# Altium integrated library TL3572-EVM-A1.1-000-202609041832.IntLib: 124 symbols (part 1 of 2)
Pins are listed as number, name and electrical type; pins without a type are passive.

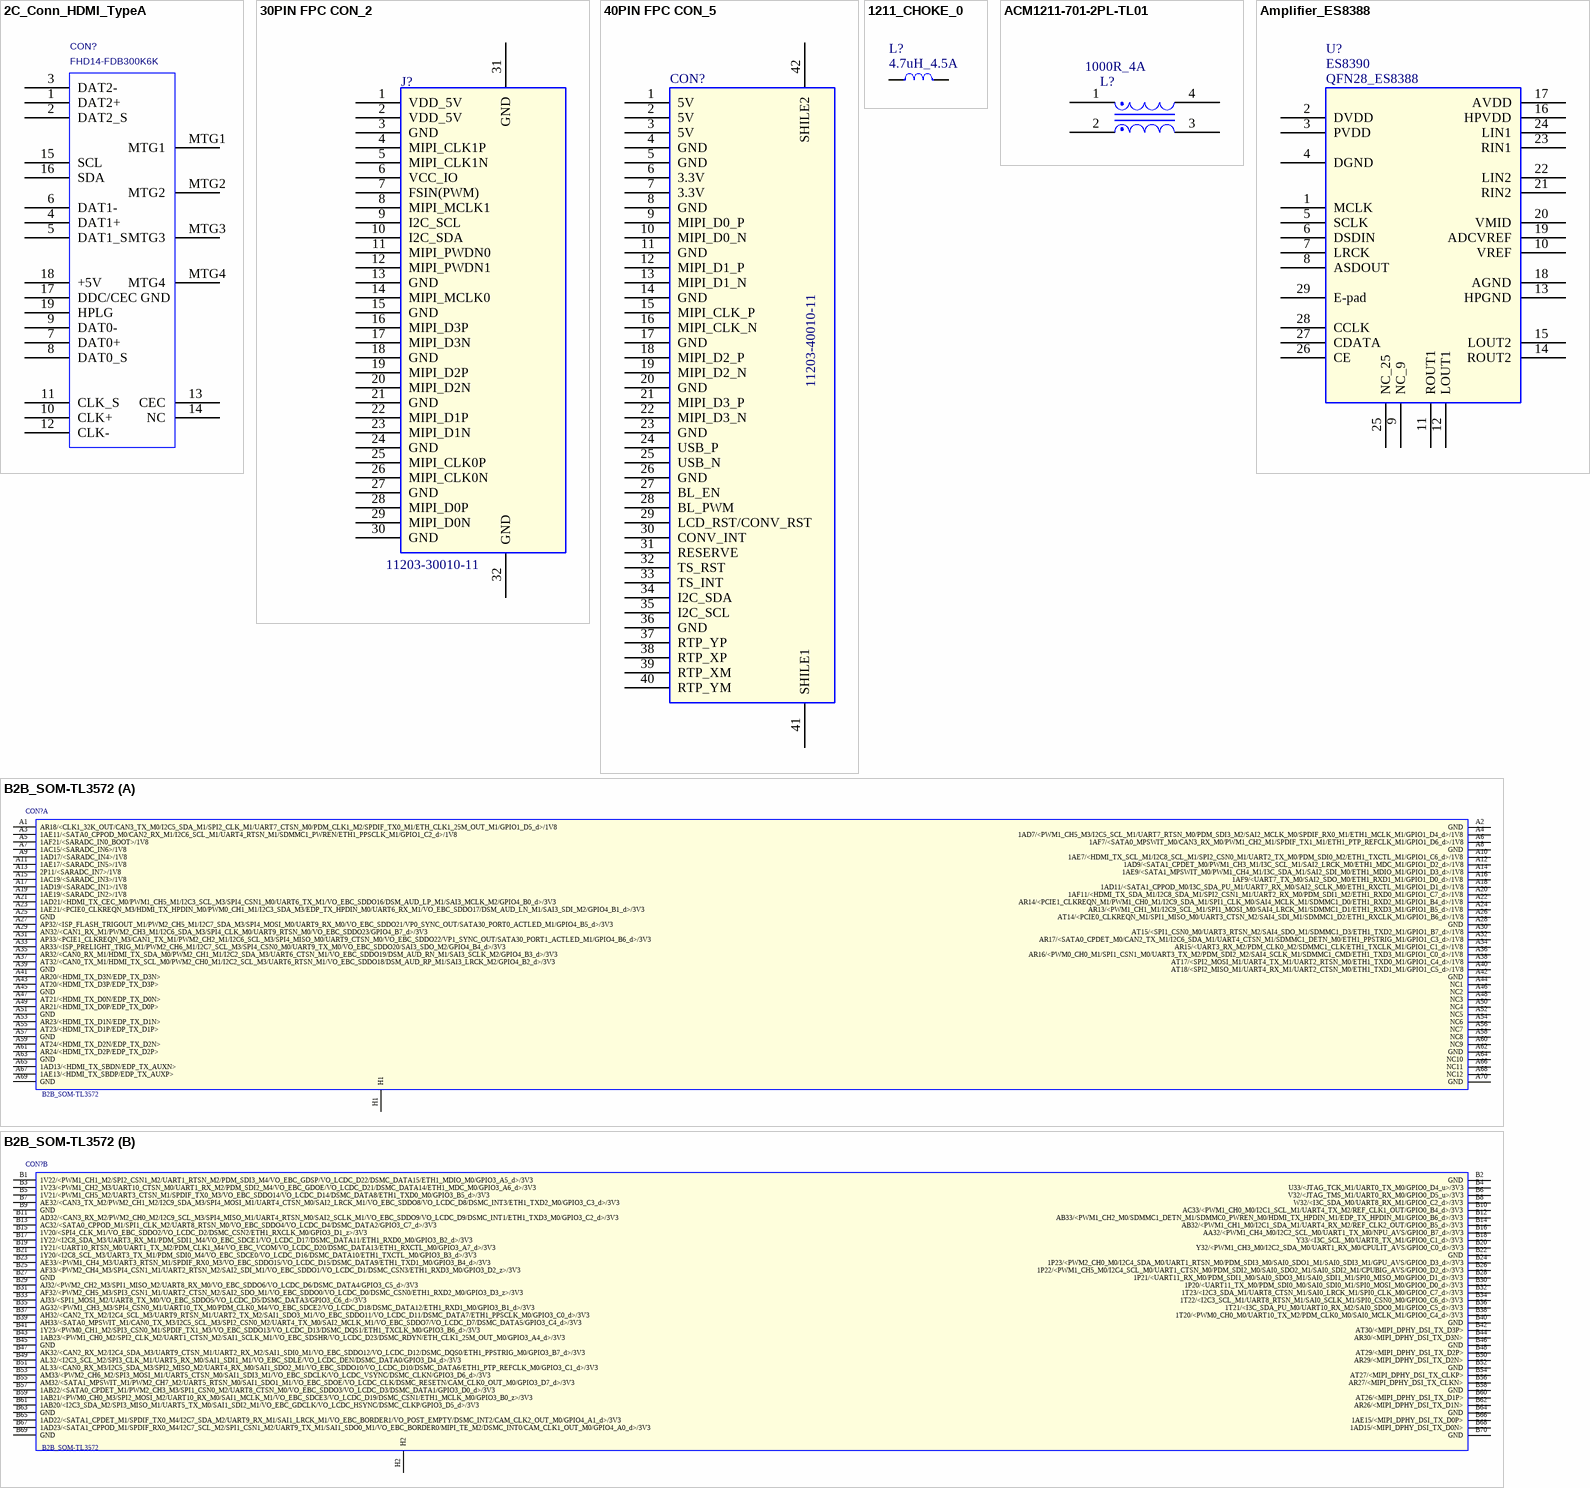
[diagram p0: symbols 2C_Conn_HDMI_TypeA to B2B_SOM-TL3572]

## 2C_Conn_HDMI_TypeA
designator CON?, comment FHD14-FDB300K6K
插件HDMI座,A型,19P,侧立; TIIntPartnumber: 2C0085; MfrNum: 10029449-001RLF; Mfr: FCI; PartName: Conn_HDMI_A; Manufacturer: 深圳特思嘉工业电子有限公司（TXGA）; Manufacturer Character: 中国大陆; PCB Footprint: SMD_Ratbd; Cost10K: 0.37; Cost100: 0.91; Vendor: Digikey; DescriptiveText: Connector HDMI Type A RA; Eco-Label: ROHS; ERP Number: 005.0001.0003.00449; As-Welded: /; Operation Temperature（℃）: -40~+85(Ta); Manufacturer PartNumber: FHD14-FDB300K6K; Temperature: -40~85℃; Part Status: 优选
footprint DIP_HDMI-A
pins: 1 DAT2+, 2 DAT2_S, 3 DAT2-, 4 DAT1+, 5 DAT1_S, 6 DAT1-, 7 DAT0+, 8 DAT0_S, 9 DAT0-, 10 CLK+, 11 CLK_S, 12 CLK-, 13 CEC, 14 NC, 15 SCL, 16 SDA, 17 DDC/CEC GND, 18 +5V, 19 HPLG, MTG1 (power), MTG2 (power), MTG3 (power), MTG4 (power)

## 30PIN FPC CON_2
designator J?, comment 11203-30010-11
FFC座,30P,0.5mm间距,翻盖下接式,H=2.0mm; Manufacturer Character: 中国大陆; Manufacturer: 深圳市联畅精密电子有限公司(LCP); PCB Footprint: CON_FFC_0D5_30P; Eco-Label: ROHS; ERP Number: 005.0001.0003.00381; Operation Temperature（℃）: -40~+85(Ta); As-Welded: /; ERP PCB Footprint: CON_FFC_30P_0D5_F_DOWN_SMD; Part Status: 优选; Manufacturer PartNumber: 11203-30010-11
footprint CON_FFC_0D5_30P
pins: 1 VDD_5V (power), 2 VDD_5V (power), 3 GND (power), 4 MIPI_CLK1P, 5 MIPI_CLK1N, 6 VCC_IO, 7 FSIN(PWM), 8 MIPI_MCLK1, 9 I2C_SCL, 10 I2C_SDA, 11 MIPI_PWDN0, 12 MIPI_PWDN1, 13 GND (power), 14 MIPI_MCLK0, 15 GND (power), 16 MIPI_D3P, 17 MIPI_D3N, 18 GND (power), 19 MIPI_D2P, 20 MIPI_D2N, 21 GND (power), 22 MIPI_D1P, 23 MIPI_D1N, 24 GND (power), 25 MIPI_CLK0P, 26 MIPI_CLK0N, 27 GND (power), 28 MIPI_D0P, 29 MIPI_D0N, 30 GND (power), 31 GND (power), 32 GND (power)

## 40PIN FPC CON_5
designator CON?, comment 11203-40010-11
FFC座,40P,0.5mm间距,翻盖下接式,H=2.0mm; Manufacturer Character: 中国大陆; Manufacturer: 深圳市联畅精密电子有限公司(LCP); As-Welded: /; Operation Temperature（℃）: -40~+85(Ta); ERP Number: 005.0001.0003.00380; Eco-Label: ROHS; PCB Footprint: CON_FFC_0D5_40P; Part Status: 优选; Manufacturer PartNumber: 11203-40010-11; Temperature: -55~85℃
footprint CON_FFC_0D5_40P
pins: 1 5V (power), 2 5V (power), 3 5V (power), 4 GND (power), 5 GND (power), 6 3.3V (power), 7 3.3V (power), 8 GND (power), 9 MIPI_D0_P, 10 MIPI_D0_N, 11 GND (power), 12 MIPI_D1_P, 13 MIPI_D1_N, 14 GND (power), 15 MIPI_CLK_P, 16 MIPI_CLK_N, 17 GND (power), 18 MIPI_D2_P, 19 MIPI_D2_N, 20 GND (power), 21 MIPI_D3_P, 22 MIPI_D3_N, 23 GND (power), 24 USB_P, 25 USB_N, 26 GND (power), 27 BL_EN, 28 BL_PWM, 29 LCD_RST/CONV_RST, 30 CONV_INT, 31 RESERVE, 32 TS_RST, 33 TS_INT, 34 I2C_SDA, 35 I2C_SCL, 36 GND (power), 37 RTP_YP, 38 RTP_XP, 39 RTP_XM, 40 RTP_YM, 41 SHILE1, 42 SHILE2

## 1211_CHOKE_0
designator L?, comment 4.7uH_4.5A
贴片功率电感,4.7uH,0.060Ω,Isat=5A,Irms=4.5A; Manufacturer Character: 中国大陆; Manufacturer: 深圳市长江微电科技有限公司（Cjiang）; Manufacturer PartNumber: FXL0530-4R7M; CLASS: DISCRETE; Operation Temperature（℃）: -55~+125(Ta); Current: 5A; As-Welded: /; ERP Number: 005.0001.0006.00167; Eco-Label: ROHS; PCB Footprint: SMD-L5452M-2P; Temperature: -40~125℃; Part Status: 测评
footprint SMD-L5452M-2P
pins: 1, 2

## ACM1211-701-2PL-TL01
designator L?, comment 1000R_4A
贴片共模电感,13mΩ,4A,50V,1000Ω@100MHz; Manufacturer Character: 中国大陆; Manufacturer: 深圳市宏业兴电子有限公司（HONGYEX）; Part Number: G11.00002; Manufacturer PartNumber: CMF9070F-102-2P-T; PCB Footprint: SMD-L9070M-4P; Eco-Label: ROHS; Operation Temperature（℃）: -40~+85(Ta); As-Welded: /; ERP Number: 005.0001.0006.00183; Price: 0; Part Type: 共模电感; Part Status: 优选
footprint SMD-L9070M-4P
pins: 1, 2, 3, 4

## Amplifier_ES8388
designator U?, comment ES8390  PCB Footprint: QFN28_ES8388
立体声音频编解码器; Manufacturer: 苏州顺芯半导体有限公司（Everest）; Manufacturer Character: 国外; RK PN: ES8388; Priority: A; Operation Temperature（℃）: -40~125(Ta); As-Welded: /; ERP Number: 005.0001.0004.01347; Eco-Label: ROHS; Part Status: 测评; Manufacturer PartNumber: ES8390; Part Type: Amplifier; Manufacturer PN: ES8388; Created by: JJJ
footprint QFN28_ES8388
pins: 1 MCLK, 2 DVDD, 3 PVDD, 4 DGND, 5 SCLK, 6 DSDIN, 7 LRCK, 8 ASDOUT, 9 NC_9, 10 VREF, 11 ROUT1, 12 LOUT1, 13 HPGND (power), 14 ROUT2, 15 LOUT2, 16 HPVDD, 17 AVDD, 18 AGND (power), 19 ADCVREF, 20 VMID, 21 RIN2, 22 LIN2, 23 RIN1, 24 LIN1, 25 NC_25, 26 CE, 27 CDATA, 28 CCLK, 29 E-pad

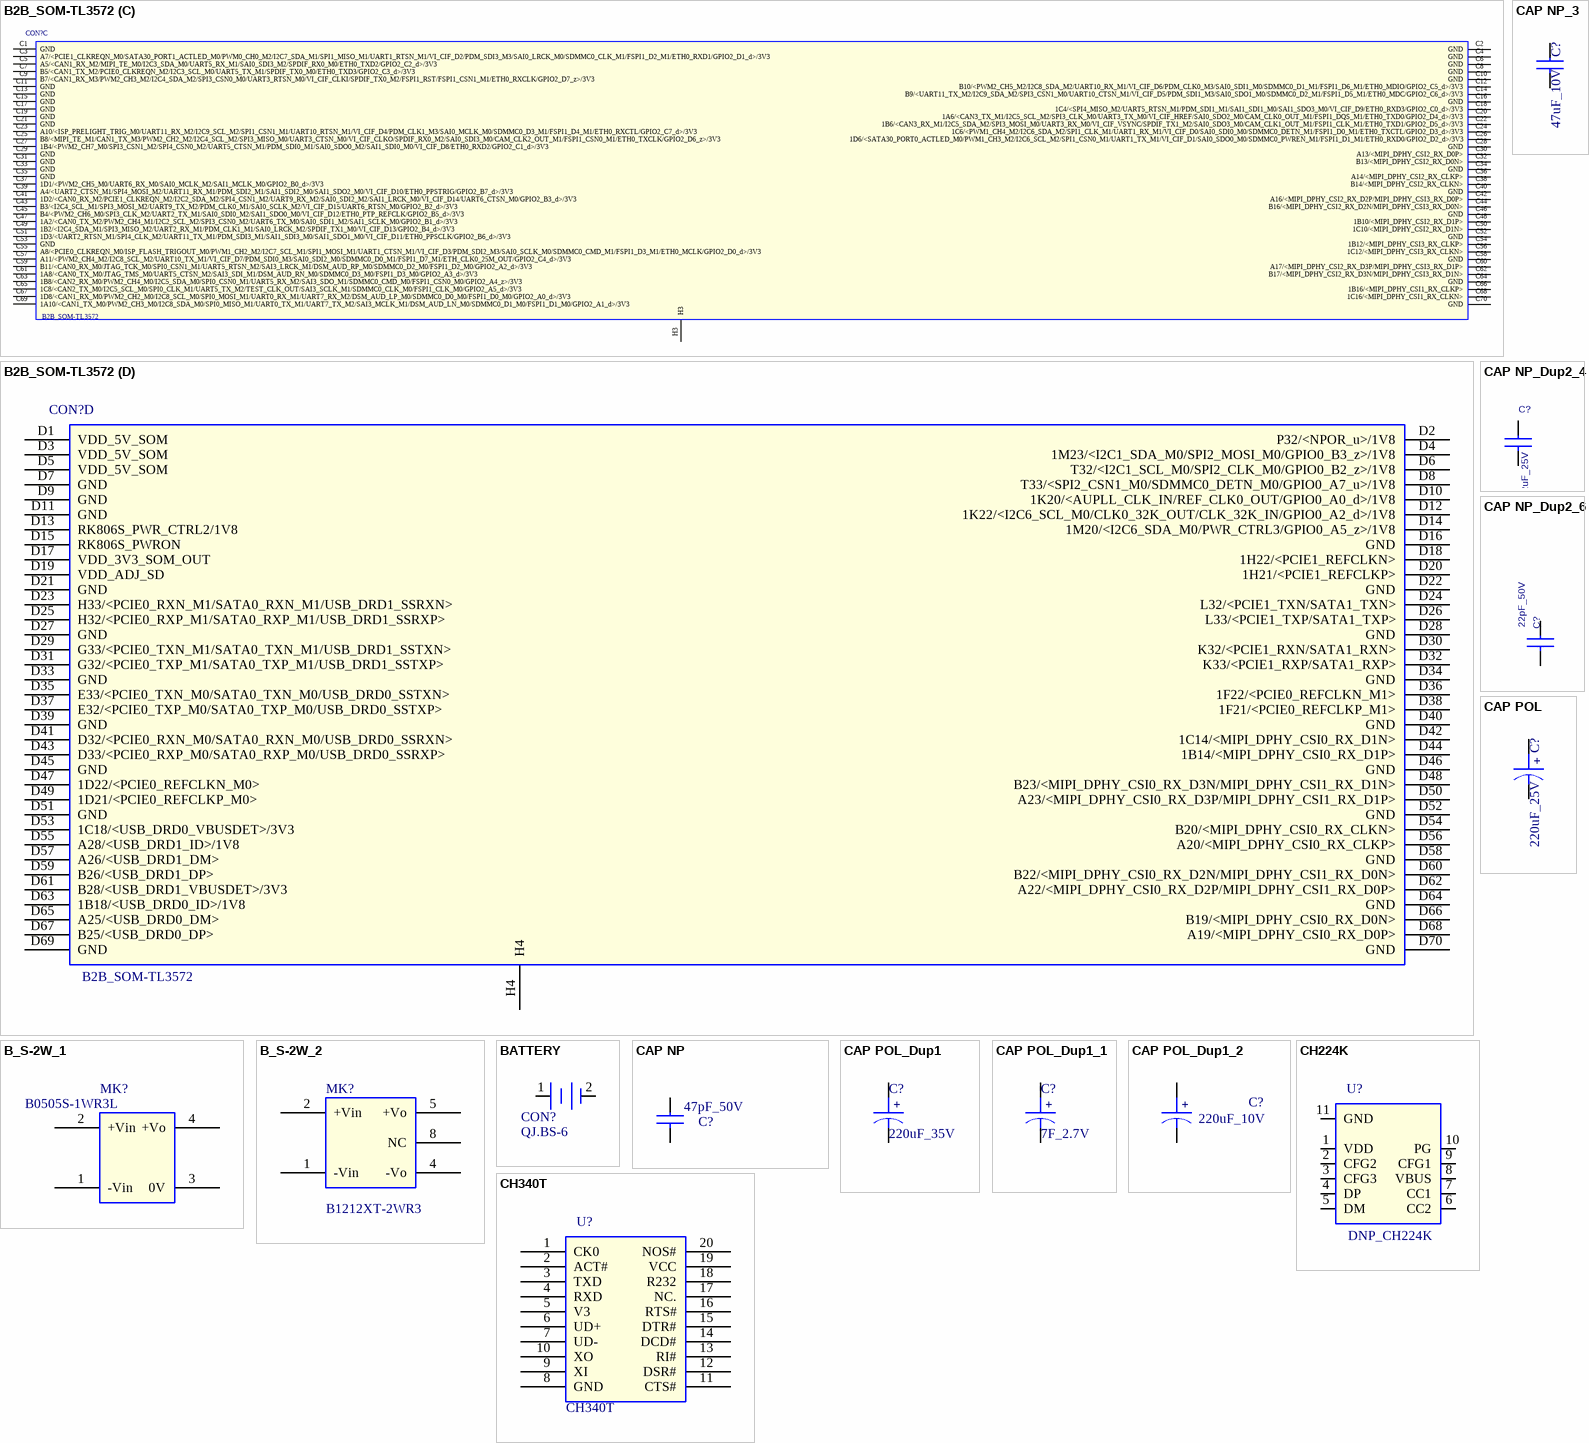
[diagram p1: symbols B2B_SOM-TL3572 to CH340T]

## B2B_SOM-TL3572
designator CON?
PCB Footprint: B2B_SOM-TL3572
footprint B2B_SOM-TL3572
part A pins: A1 AR18/<CLK1_32K_OUT/CAN3_TX_M0/I2C5_SDA_M1/SPI2_CLK_M1/UART7_CTSN_M0/PDM_CLK1_M2/SPDIF_TX0_M1/ETH_CLK1_25M_OUT_M1/GPIO1_D5_d>/1V8 (power), A2 GND (power), A3 1AE11/<SATA0_CPPOD_M0/CAN2_RX_M1/I2C6_SCL_M1/UART4_RTSN_M1/SDMMC1_PWREN/ETH1_PPSCLK_M1/GPIO1_C2_d>/1V8 (power), A4 1AD7/<PWM1_CH5_M3/I2C5_SCL_M1/UART7_RTSN_M0/PDM_SDI3_M2/SAI2_MCLK_M0/SPDIF_RX0_M1/ETH1_MCLK_M1/GPIO1_D4_d>/1V8, A5 1AF21/<SARADC_IN0_BOOT>/1V8 (power), A6 1AF7/<SATA0_MPSWIT_M0/CAN3_RX_M0/PWM1_CH2_M1/SPDIF_TX1_M1/ETH1_PTP_REFCLK_M1/GPIO1_D6_d>/1V8, A7 1AC15/<SARADC_IN6>/1V8 (power), A8 GND (power), A9 1AD17/<SARADC_IN4>/1V8 (power), A10 1AE7/<HDMI_TX_SCL_M1/I2C8_SCL_M1/SPI2_CSN0_M1/UART2_TX_M0/PDM_SDI0_M2/ETH1_TXCTL_M1/GPIO1_C6_d>/1V8, A11 1AE17/<SARADC_IN5>/1V8 (power), A12 1AD9/<SATA1_CPDET_M0/PWM1_CH3_M1/I3C_SCL_M1/SAI2_LRCK_M0/ETH1_MDC_M1/GPIO1_D2_d>/1V8, A13 2P11/<SARADC_IN7>/1V8, A14 1AE9/<SATA1_MPSWIT_M0/PWM1_CH4_M1/I3C_SDA_M1/SAI2_SDI_M0/ETH1_MDIO_M1/GPIO1_D3_d>/1V8 (power), A15 1AC19/<SARADC_IN3>/1V8, A16 1AF9/<UART7_TX_M0/SAI2_SDO_M0/ETH1_RXD1_M1/GPIO1_D0_d>/1V8, A17 1AD19/<SARADC_IN1>/1V8, A18 1AD11/<SATA1_CPPOD_M0/I3C_SDA_PU_M1/UART7_RX_M0/SAI2_SCLK_M0/ETH1_RXCTL_M1/GPIO1_D1_d>/1V8, A19 1AE19/<SARADC_IN2>/1V8, A20 1AF11/<HDMI_TX_SDA_M1/I2C8_SDA_M1/SPI2_CSN1_M1/UART2_RX_M0/PDM_SDI1_M2/ETH1_RXD0_M1/GPIO1_C7_d>/1V8, A21 1AD21/<HDMI_TX_CEC_M0/PWM1_CH5_M1/I2C3_SCL_M3/SPI4_CSN1_M0/UART6_TX_M1/VO_EBC_SDDO16/DSM_AUD_LP_M1/SAI3_MCLK_M2/GPIO4_B0_d>/3V3, A22 AR14/<PCIE1_CLKREQN_M1/PWM1_CH0_M1/I2C9_SDA_M1/SPI1_CLK_M0/SAI4_MCLK_M1/SDMMC1_D0/ETH1_RXD2_M1/GPIO1_B4_d>/1V8, A23 1AE21/<PCIE0_CLKREQN_M3/HDMI_TX_HPDIN_M0/PWM0_CH1_M1/I2C3_SDA_M3/EDP_TX_HPDIN_M0/UART6_RX_M1/VO_EBC_SDDO17/DSM_AUD_LN_M1/SAI3_SDI_M2/GPIO4_B1_d>/3V3, A24 AR13/<PWM1_CH1_M1/I2C9_SCL_M1/SPI1_MOSI_M0/SAI4_LRCK_M1/SDMMC1_D1/ETH1_RXD3_M1/GPIO1_B5_d>/1V8, A25 GND (power), A26 AT14/<PCIE0_CLKREQN_M1/SPI1_MISO_M0/UART3_CTSN_M2/SAI4_SDI_M1/SDMMC1_D2/ETH1_RXCLK_M1/GPIO1_B6_d>/1V8, A27 AP32/<ISP_FLASH_TRIGOUT_M1/PWM2_CH5_M1/I2C7_SDA_M3/SPI4_MOSI_M0/UART9_RX_M0/VO_EBC_SDDO21/VP0_SYNC_OUT/SATA30_PORT0_ACTLED_M1/GPIO4_B5_d>/3V3, A28 GND (power), A29 AN32/<CAN1_RX_M1/PWM2_CH3_M1/I2C6_SDA_M3/SPI4_CLK_M0/UART9_RTSN_M0/VO_EBC_SDDO23/GPIO4_B7_d>/3V3, A30 AT15/<SPI1_CSN0_M0/UART3_RTSN_M2/SAI4_SDO_M1/SDMMC1_D3/ETH1_TXD2_M1/GPIO1_B7_d>/1V8, A31 AP33/<PCIE1_CLKREQN_M3/CAN1_TX_M1/PWM2_CH2_M1/I2C6_SCL_M3/SPI4_MISO_M0/UART9_CTSN_M0/VO_EBC_SDDO22/VP1_SYNC_OUT/SATA30_PORT1_ACTLED_M1/GPIO4_B6_d>/3V3, A32 AR17/<SATA0_CPDET_M0/CAN2_TX_M1/I2C6_SDA_M1/UART4_CTSN_M1/SDMMC1_DETN_M0/ETH1_PPSTRIG_M1/GPIO1_C3_d>/1V8, A33 AR33/<ISP_PRELIGHT_TRIG_M1/PWM2_CH6_M1/I2C7_SCL_M3/SPI4_CSN0_M0/UART9_TX_M0/VO_EBC_SDDO20/SAI3_SDO_M2/GPIO4_B4_d>/3V3, A34 AR15/<UART3_RX_M2/PDM_CLK0_M2/SDMMC1_CLK/ETH1_TXCLK_M1/GPIO1_C1_d>/1V8, A35 AR32/<CAN0_RX_M1/HDMI_TX_SDA_M0/PWM2_CH1_M1/I2C2_SDA_M3/UART6_CTSN_M1/VO_EBC_SDDO19/DSM_AUD_RN_M1/SAI3_SCLK_M2/GPIO4_B3_d>/3V3, A36 AR16/<PWM0_CH0_M1/SPI1_CSN1_M0/UART3_TX_M2/PDM_SDI2_M2/SAI4_SCLK_M1/SDMMC1_CMD/ETH1_TXD3_M1/GPIO1_C0_d>/1V8, A37 AT32/<CAN0_TX_M1/HDMI_TX_SCL_M0/PWM2_CH0_M1/I2C2_SCL_M3/UART6_RTSN_M1/VO_EBC_SDDO18/DSM_AUD_RP_M1/SAI3_LRCK_M2/GPIO4_B2_d>/3V3, A38 AT17/<SPI2_MOSI_M1/UART4_TX_M1/UART2_RTSN_M0/ETH1_TXD0_M1/GPIO1_C4_d>/1V8, A39 GND (power), A40 AT18/<SPI2_MISO_M1/UART4_RX_M1/UART2_CTSN_M0/ETH1_TXD1_M1/GPIO1_C5_d>/1V8, A41 AR20/<HDMI_TX_D3N/EDP_TX_D3N>, A42 GND (power), A43 AT20/<HDMI_TX_D3P/EDP_TX_D3P>, A44 NC1, A45 GND (power), A46 NC2, A47 AT21/<HDMI_TX_D0N/EDP_TX_D0N>, A48 NC3, A49 AR21/<HDMI_TX_D0P/EDP_TX_D0P>, A50 NC4, A51 GND (power), A52 NC5, A53 AR23/<HDMI_TX_D1N/EDP_TX_D1N>, A54 NC6, A55 AT23/<HDMI_TX_D1P/EDP_TX_D1P>, A56 NC7, A57 GND (power), A58 NC8, A59 AT24/<HDMI_TX_D2N/EDP_TX_D2N>, A60 NC9, A61 AR24/<HDMI_TX_D2P/EDP_TX_D2P>, A62 GND (power), A63 GND (power), A64 NC10, A65 1AD13/<HDMI_TX_SBDN/EDP_TX_AUXN>, A66 NC11, A67 1AE13/<HDMI_TX_SBDP/EDP_TX_AUXP>, A68 NC12, A69 GND (power), A70 GND (power), H1
part B pins: B1 1V22/<PWM1_CH1_M2/SPI2_CSN1_M2/UART1_RTSN_M2/PDM_SDI3_M4/VO_EBC_GDSP/VO_LCDC_D22/DSMC_DATA15/ETH1_MDIO_M0/GPIO3_A5_d>/3V3, B2 GND (power), B3 1V23/<PWM1_CH2_M3/UART10_CTSN_M0/UART1_RX_M2/PDM_SDI2_M4/VO_EBC_GDOE/VO_LCDC_D21/DSMC_DATA14/ETH1_MDC_M0/GPIO3_A6_d>/3V3, B4 U33/<JTAG_TCK_M1/UART0_TX_M0/GPIO0_D4_u>/3V3 (power), B5 1V21/<PWM1_CH5_M2/UART3_CTSN_M1/SPDIF_TX0_M3/VO_EBC_SDDO14/VO_LCDC_D14/DSMC_DATA8/ETH1_TXD0_M0/GPIO3_B5_d>/3V3, B6 V32/<JTAG_TMS_M1/UART0_RX_M0/GPIO0_D5_u>/3V3 (power), B7 AE32/<CAN3_TX_M2/PWM2_CH1_M2/I2C9_SDA_M3/SPI4_MOSI_M1/UART4_CTSN_M0/SAI2_LRCK_M1/VO_EBC_SDDO8/VO_LCDC_D8/DSMC_INT3/ETH1_TXD2_M0/GPIO3_C3_d>/3V3, B8 W32/<I3C_SDA_M0/UART8_RX_M1/GPIO0_C2_d>/3V3, B9 GND (power), B10 AC33/<PWM1_CH0_M0/I2C1_SCL_M1/UART4_TX_M2/REF_CLK1_OUT/GPIO0_B4_d>/3V3, B11 AD32/<CAN3_RX_M2/PWM2_CH0_M2/I2C9_SCL_M3/SPI4_MISO_M1/UART4_RTSN_M0/SAI2_SCLK_M1/VO_EBC_SDDO9/VO_LCDC_D9/DSMC_INT1/ETH1_TXD3_M0/GPIO3_C2_d>/3V3 (hiz), B12 AB33/<PWM1_CH2_M0/SDMMC1_DETN_M1/SDMMC0_PWREN_M0/HDMI_TX_HPDIN_M1/EDP_TX_HPDIN_M1/GPIO0_B6_d>/3V3, B13 AC32/<SATA0_CPPOD_M1/SPI1_CLK_M2/UART8_RTSN_M0/VO_EBC_SDDO4/VO_LCDC_D4/DSMC_DATA2/GPIO3_C7_d>/3V3, B14 AB32/<PWM1_CH1_M0/I2C1_SDA_M1/UART4_RX_M2/REF_CLK2_OUT/GPIO0_B5_d>/3V3 (power), B15 1V20/<SPI4_CLK_M1/VO_EBC_SDDO2/VO_LCDC_D2/DSMC_CSN2/ETH1_RXCLK_M0/GPIO3_D1_z>/3V3, B16 AA32/<PWM1_CH4_M0/I2C2_SCL_M0/UART1_TX_M0/NPU_AVS/GPIO0_B7_d>/3V3 (power), B17 1Y22/<I2C8_SDA_M3/UART3_RX_M1/PDM_SDI1_M4/VO_EBC_SDCE1/VO_LCDC_D17/DSMC_DATA11/ETH1_RXD0_M0/GPIO3_B2_d>/3V3 (power), B18 Y33/<I3C_SCL_M0/UART8_TX_M1/GPIO0_C1_d>/3V3, B19 1Y21/<UART10_RTSN_M0/UART1_TX_M2/PDM_CLK1_M4/VO_EBC_VCOM/VO_LCDC_D20/DSMC_DATA13/ETH1_RXCTL_M0/GPIO3_A7_d>/3V3 (power), B20 Y32/<PWM1_CH3_M0/I2C2_SDA_M0/UART1_RX_M0/CPULIT_AVS/GPIO0_C0_d>/3V3 (power), B21 1Y20/<I2C8_SCL_M3/UART3_TX_M1/PDM_SDI0_M4/VO_EBC_SDCE0/VO_LCDC_D16/DSMC_DATA10/ETH1_TXCTL_M0/GPIO3_B3_d>/3V3, B22 GND (power), B23 AE33/<PWM1_CH4_M3/UART3_RTSN_M1/SPDIF_RX0_M3/VO_EBC_SDDO15/VO_LCDC_D15/DSMC_DATA9/ETH1_TXD1_M0/GPIO3_B4_d>/3V3, B24 1P23/<PWM2_CH0_M0/I2C4_SDA_M0/UART1_RTSN_M0/PDM_SDI3_M0/SAI0_SDO1_M1/SAI0_SDI3_M1/GPU_AVS/GPIO0_D3_d>/3V3 (power), B25 AF33/<PWM2_CH4_M3/SPI4_CSN1_M1/UART2_RTSN_M2/SAI2_SDI_M1/VO_EBC_SDDO1/VO_LCDC_D1/DSMC_CSN3/ETH1_RXD3_M0/GPIO3_D2_z>/3V3, B26 1P22/<PWM1_CH5_M0/I2C4_SCL_M0/UART1_CTSN_M0/PDM_SDI2_M0/SAI0_SDO2_M1/SAI0_SDI2_M1/CPUBIG_AVS/GPIO0_D2_d>/3V3, B27 GND (power), B28 1P21/<UART11_RX_M0/PDM_SDI1_M0/SAI0_SDO3_M1/SAI0_SDI1_M1/SPI0_MISO_M0/GPIO0_D1_d>/3V3 (power), B29 AJ32/<PWM2_CH2_M3/SPI1_MISO_M2/UART8_RX_M0/VO_EBC_SDDO6/VO_LCDC_D6/DSMC_DATA4/GPIO3_C5_d>/3V3, B30 1P20/<UART11_TX_M0/PDM_SDI0_M0/SAI0_SDI0_M1/SPI0_MOSI_M0/GPIO0_D0_d>/3V3 (power), B31 AF32/<PWM2_CH5_M3/SPI3_CSN1_M1/UART2_CTSN_M2/SAI2_SDO_M1/VO_EBC_SDDO0/VO_LCDC_D0/DSMC_CSN0/ETH1_RXD2_M0/GPIO3_D3_z>/3V3, B32 1T23/<I2C3_SDA_M1/UART8_CTSN_M1/SAI0_LRCK_M1/SPI0_CLK_M0/GPIO0_C7_d>/3V3 (power), B33 AJ33/<SPI1_MOSI_M2/UART8_TX_M0/VO_EBC_SDDO5/VO_LCDC_D5/DSMC_DATA3/GPIO3_C6_d>/3V3, B34 1T22/<I2C3_SCL_M1/UART8_RTSN_M1/SAI0_SCLK_M1/SPI0_CSN0_M0/GPIO0_C6_d>/3V3 (power), B35 AG32/<PWM1_CH3_M3/SPI4_CSN0_M1/UART10_TX_M0/PDM_CLK0_M4/VO_EBC_SDCE2/VO_LCDC_D18/DSMC_DATA12/ETH1_RXD1_M0/GPIO3_B1_d>/3V3, B36 1T21/<I3C_SDA_PU_M0/UART10_RX_M2/SAI0_SDO0_M1/GPIO0_C5_d>/3V3, B37 AH32/<CAN2_TX_M2/I2C4_SCL_M3/UART9_RTSN_M1/UART2_TX_M2/SAI1_SDO3_M1/VO_EBC_SDDO11/VO_LCDC_D11/DSMC_DATA7/ETH1_PPSCLK_M0/GPIO3_C0_d>/3V3, B38 1T20/<PWM0_CH0_M0/UART10_TX_M2/PDM_CLK0_M0/SAI0_MCLK_M1/GPIO0_C4_d>/3V3, B39 AH33/<SATA0_MPSWIT_M1/CAN0_TX_M3/I2C5_SCL_M3/SPI2_CSN0_M2/UART4_TX_M0/SAI2_MCLK_M1/VO_EBC_SDDO7/VO_LCDC_D7/DSMC_DATA5/GPIO3_C4_d>/3V3, B40 GND (power), B41 1Y23/<PWM0_CH1_M2/SPI3_CSN0_M1/SPDIF_TX1_M3/VO_EBC_SDDO13/VO_LCDC_D13/DSMC_DQS1/ETH1_TXCLK_M0/GPIO3_B6_d>/3V3, B42 AT30/<MIPI_DPHY_DSI_TX_D3P>, B43 1AB23/<PWM1_CH0_M2/SPI2_CLK_M2/UART1_CTSN_M2/SAI1_SCLK_M1/VO_EBC_SDSHR/VO_LCDC_D23/DSMC_RDYN/ETH_CLK1_25M_OUT_M0/GPIO3_A4_d>/3V3, B44 AR30/<MIPI_DPHY_DSI_TX_D3N>, B45 GND (power), B46 GND (power), B47 AK32/<CAN2_RX_M2/I2C4_SDA_M3/UART9_CTSN_M1/UART2_RX_M2/SAI1_SDI0_M1/VO_EBC_SDDO12/VO_LCDC_D12/DSMC_DQS0/ETH1_PPSTRIG_M0/GPIO3_B7_d>/3V3, B48 AT29/<MIPI_DPHY_DSI_TX_D2P>, B49 AL32/<I2C3_SCL_M2/SPI3_CLK_M1/UART5_RX_M0/SAI1_SDI1_M1/VO_EBC_SDLE/VO_LCDC_DEN/DSMC_DATA0/GPIO3_D4_d>/3V3 (power), B50 AR29/<MIPI_DPHY_DSI_TX_D2N>, B51 AL33/<CAN0_RX_M3/I2C5_SDA_M3/SPI2_MISO_M2/UART4_RX_M0/SAI1_SDO2_M1/VO_EBC_SDDO10/VO_LCDC_D10/DSMC_DATA6/ETH1_PTP_REFCLK_M0/GPIO3_C1_d>/3V3, B52 GND (power), B53 AM33/<PWM2_CH6_M2/SPI3_MOSI_M1/UART5_CTSN_M0/SAI1_SDI3_M1/VO_EBC_SDCLK/VO_LCDC_VSYNC/DSMC_CLKN/GPIO3_D6_d>/3V3, B54 AT27/<MIPI_DPHY_DSI_TX_CLKP>, B55 AM32/<SATA1_MPSWIT_M1/PWM2_CH7_M2/UART5_RTSN_M0/SAI1_SDO1_M1/VO_EBC_SDOE/VO_LCDC_CLK/DSMC_RESETN/CAM_CLK0_OUT_M0/GPIO3_D7_d>/3V3, B56 AR27/<MIPI_DPHY_DSI_TX_CLKN>, B57 1AB22/<SATA0_CPDET_M1/PWM2_CH3_M3/SPI1_CSN0_M2/UART8_CTSN_M0/VO_EBC_SDDO3/VO_LCDC_D3/DSMC_DATA1/GPIO3_D0_d>/3V3, B58 GND (power), B59 1AB21/<PWM0_CH0_M3/SPI2_MOSI_M2/UART10_RX_M0/SAI1_MCLK_M1/VO_EBC_SDCE3/VO_LCDC_D19/DSMC_CSN1/ETH1_MCLK_M0/GPIO3_B0_z>/3V3, B60 AT26/<MIPI_DPHY_DSI_TX_D1P>, B61 1AB20/<I2C3_SDA_M2/SPI3_MISO_M1/UART5_TX_M0/SAI1_SDI2_M1/VO_EBC_GDCLK/VO_LCDC_HSYNC/DSMC_CLKP/GPIO3_D5_d>/3V3, B62 AR26/<MIPI_DPHY_DSI_TX_D1N>, B63 GND (power), B64 GND (power), B65 1AD22/<SATA1_CPDET_M1/SPDIF_TX0_M4/I2C7_SDA_M2/UART9_RX_M1/SAI1_LRCK_M1/VO_EBC_BORDER1/VO_POST_EMPTY/DSMC_INT2/CAM_CLK2_OUT_M0/GPIO4_A1_d>/3V3, B66 1AE15/<MIPI_DPHY_DSI_TX_D0P> (power), B67 1AD23/<SATA1_CPPOD_M1/SPDIF_RX0_M4/I2C7_SCL_M2/SPI1_CSN1_M2/UART9_TX_M1/SAI1_SDO0_M1/VO_EBC_BORDER0/MIPI_TE_M2/DSMC_INT0/CAM_CLK1_OUT_M0/GPIO4_A0_d>/3V3, B68 1AD15/<MIPI_DPHY_DSI_TX_D0N> (power), B69 GND (power), B70 GND (power), H2
part C pins: C1 GND (power), C2 GND (power), C3 A7/<PCIE1_CLKREQN_M0/SATA30_PORT1_ACTLED_M0/PWM0_CH0_M2/I2C7_SDA_M1/SPI1_MISO_M1/UART1_RTSN_M1/VI_CIF_D2/PDM_SDI3_M3/SAI0_LRCK_M0/SDMMC0_CLK_M1/FSPI1_D2_M1/ETH0_RXD1/GPIO2_D1_d>/3V3, C4 GND (power), C5 A5/<CAN1_RX_M2/MIPI_TE_M0/I2C3_SDA_M0/UART5_RX_M1/SAI0_SDI3_M2/SPDIF_RX0_M0/ETH0_TXD2/GPIO2_C2_d>/3V3, C6 GND (power), C7 B5/<CAN1_TX_M2/PCIE0_CLKREQN_M2/I2C3_SCL_M0/UART5_TX_M1/SPDIF_TX0_M0/ETH0_TXD3/GPIO2_C3_d>/3V3, C8 GND (power), C9 B7/<CAN1_RX_M3/PWM2_CH3_M2/I2C4_SDA_M2/SPI3_CSN0_M0/UART3_RTSN_M0/VI_CIF_CLKI/SPDIF_TX0_M2/FSPI1_RST/FSPI1_CSN1_M1/ETH0_RXCLK/GPIO2_D7_z>/3V3, C10 GND (power), C11 GND (power), C12 B10/<PWM2_CH5_M2/I2C8_SDA_M2/UART10_RX_M1/VI_CIF_D6/PDM_CLK0_M3/SAI0_SDI1_M0/SDMMC0_D1_M1/FSPI1_D6_M1/ETH0_MDIO/GPIO2_C5_d>/3V3, C13 GND (power), C14 B9/<UART11_TX_M2/I2C9_SDA_M2/SPI3_CSN1_M0/UART10_CTSN_M1/VI_CIF_D5/PDM_SDI1_M3/SAI0_SDO1_M0/SDMMC0_D2_M1/FSPI1_D5_M1/ETH0_MDC/GPIO2_C6_d>/3V3, C15 GND (power), C16 GND (power), C17 GND (power), C18 1C4/<SPI4_MISO_M2/UART5_RTSN_M1/PDM_SDI1_M1/SAI1_SDI1_M0/SAI1_SDO3_M0/VI_CIF_D9/ETH0_RXD3/GPIO2_C0_d>/3V3, C19 GND (power), C20 1A6/<CAN3_TX_M1/I2C5_SCL_M2/SPI3_CLK_M0/UART3_TX_M0/VI_CIF_HREF/SAI0_SDO2_M0/CAM_CLK0_OUT_M1/FSPI1_DQS_M1/ETH0_TXD0/GPIO2_D4_d>/3V3, C21 GND (power), C22 1B6/<CAN3_RX_M1/I2C5_SDA_M2/SPI3_MOSI_M0/UART3_RX_M0/VI_CIF_VSYNC/SPDIF_TX1_M2/SAI0_SDO3_M0/CAM_CLK1_OUT_M1/FSPI1_CLK_M1/ETH0_TXD1/GPIO2_D5_d>/3V3, C23 A10/<ISP_PRELIGHT_TRIG_M0/UART11_RX_M2/I2C9_SCL_M2/SPI1_CSN1_M1/UART10_RTSN_M1/VI_CIF_D4/PDM_CLK1_M3/SAI0_MCLK_M0/SDMMC0_D3_M1/FSPI1_D4_M1/ETH0_RXCTL/GPIO2_C7_d>/3V3, C24 1C6/<PWM1_CH4_M2/I2C6_SDA_M2/SPI1_CLK_M1/UART1_RX_M1/VI_CIF_D0/SAI0_SDI0_M0/SDMMC0_DETN_M1/FSPI1_D0_M1/ETH0_TXCTL/GPIO2_D3_d>/3V3, C25 B8/<MIPI_TE_M1/CAN1_TX_M3/PWM2_CH2_M2/I2C4_SCL_M2/SPI3_MISO_M0/UART3_CTSN_M0/VI_CIF_CLKO/SPDIF_RX0_M2/SAI0_SDI3_M0/CAM_CLK2_OUT_M1/FSPI1_CSN0_M1/ETH0_TXCLK/GPIO2_D6_z>/3V3, C26 1D6/<SATA30_PORT0_ACTLED_M0/PWM1_CH3_M2/I2C6_SCL_M2/SPI1_CSN0_M1/UART1_TX_M1/VI_CIF_D1/SAI0_SDO0_M0/SDMMC0_PWREN_M1/FSPI1_D1_M1/ETH0_RXD0/GPIO2_D2_d>/3V3, C27 1B4/<PWM2_CH7_M0/SPI3_CSN1_M2/SPI4_CSN0_M2/UART5_CTSN_M1/PDM_SDI0_M1/SAI0_SDO0_M2/SAI1_SDI0_M0/VI_CIF_D8/ETH0_RXD2/GPIO2_C1_d>/3V3 (power), C28 GND (power), C29 GND (power), C30 A13/<MIPI_DPHY_CSI2_RX_D0P>, C31 GND (power), C32 B13/<MIPI_DPHY_CSI2_RX_D0N>, C33 GND (power), C34 GND (power), C35 GND (power), C36 A14/<MIPI_DPHY_CSI2_RX_CLKP>, C37 1D1/<PWM2_CH5_M0/UART6_RX_M0/SAI0_MCLK_M2/SAI1_MCLK_M0/GPIO2_B0_d>/3V3, C38 B14/<MIPI_DPHY_CSI2_RX_CLKN>, C39 A4/<UART2_CTSN_M1/SPI4_MOSI_M2/UART11_RX_M1/PDM_SDI2_M1/SAI1_SDI2_M0/SAI1_SDO2_M0/VI_CIF_D10/ETH0_PPSTRIG/GPIO2_B7_d>/3V3 (power), C40 GND (power), C41 1D2/<CAN0_RX_M2/PCIE1_CLKREQN_M2/I2C2_SDA_M2/SPI4_CSN1_M2/UART9_RX_M2/SAI0_SDI2_M2/SAI1_LRCK_M0/VI_CIF_D14/UART6_CTSN_M0/GPIO2_B3_d>/3V3, C42 A16/<MIPI_DPHY_CSI2_RX_D2P/MIPI_DPHY_CSI3_RX_D0P>, C43 B3/<I2C4_SCL_M1/SPI3_MOSI_M2/UART9_TX_M2/PDM_CLK0_M1/SAI0_SCLK_M2/VI_CIF_D15/UART6_RTSN_M0/GPIO2_B2_d>/3V3, C44 B16/<MIPI_DPHY_CSI2_RX_D2N/MIPI_DPHY_CSI3_RX_D0N>, C45 B4/<PWM2_CH6_M0/SPI3_CLK_M2/UART2_TX_M1/SAI0_SDI0_M2/SAI1_SDO0_M0/VI_CIF_D12/ETH0_PTP_REFCLK/GPIO2_B5_d>/3V3 (power), C46 GND (power), C47 1A2/<CAN0_TX_M2/PWM2_CH4_M1/I2C2_SCL_M2/SPI3_CSN0_M2/UART6_TX_M0/SAI0_SDI1_M2/SAI1_SCLK_M0/GPIO2_B1_d>/3V3, C48 1B10/<MIPI_DPHY_CSI2_RX_D1P>, C49 1B2/<I2C4_SDA_M1/SPI3_MISO_M2/UART2_RX_M1/PDM_CLK1_M1/SAI0_LRCK_M2/SPDIF_TX1_M0/VI_CIF_D13/GPIO2_B4_d>/3V3, C50 1C10/<MIPI_DPHY_CSI2_RX_D1N>, C51 1D3/<UART2_RTSN_M1/SPI4_CLK_M2/UART11_TX_M1/PDM_SDI3_M1/SAI1_SDI3_M0/SAI1_SDO1_M0/VI_CIF_D11/ETH0_PPSCLK/GPIO2_B6_d>/3V3 (power), C52 GND (power), C53 GND (power), C54 1B12/<MIPI_DPHY_CSI3_RX_CLKP>, C55 A8/<PCIE0_CLKREQN_M0/ISP_FLASH_TRIGOUT_M0/PWM1_CH2_M2/I2C7_SCL_M1/SPI1_MOSI_M1/UART1_CTSN_M1/VI_CIF_D3/PDM_SDI2_M3/SAI0_SCLK_M0/SDMMC0_CMD_M1/FSPI1_D3_M1/ETH0_MCLK/GPIO2_D0_d>/3V3, C56 1C12/<MIPI_DPHY_CSI3_RX_CLKN>, C57 A11/<PWM2_CH4_M2/I2C8_SCL_M2/UART10_TX_M1/VI_CIF_D7/PDM_SDI0_M3/SAI0_SDI2_M0/SDMMC0_D0_M1/FSPI1_D7_M1/ETH_CLK0_25M_OUT/GPIO2_C4_d>/3V3 (power), C58 GND (power), C59 B11/<CAN0_RX_M0/JTAG_TCK_M0/SPI0_CSN1_M1/UART5_RTSN_M2/SAI3_LRCK_M1/DSM_AUD_RP_M0/SDMMC0_D2_M0/FSPI1_D2_M0/GPIO2_A2_d>/3V3, C60 A17/<MIPI_DPHY_CSI2_RX_D3P/MIPI_DPHY_CSI3_RX_D1P>, C61 1A8/<CAN0_TX_M0/JTAG_TMS_M0/UART5_CTSN_M2/SAI3_SDI_M1/DSM_AUD_RN_M0/SDMMC0_D3_M0/FSPI1_D3_M0/GPIO2_A3_d>/3V3, C62 B17/<MIPI_DPHY_CSI2_RX_D3N/MIPI_DPHY_CSI3_RX_D1N>, C63 1B8/<CAN2_RX_M0/PWM2_CH4_M0/I2C5_SDA_M0/SPI0_CSN0_M1/UART5_RX_M2/SAI3_SDO_M1/SDMMC0_CMD_M0/FSPI1_CSN0_M0/GPIO2_A4_z>/3V3, C64 GND (power), C65 1C8/<CAN2_TX_M0/I2C5_SCL_M0/SPI0_CLK_M1/UART5_TX_M2/TEST_CLK_OUT/SAI3_SCLK_M1/SDMMC0_CLK_M0/FSPI1_CLK_M0/GPIO2_A5_d>/3V3, C66 1B16/<MIPI_DPHY_CSI1_RX_CLKP>, C67 1D8/<CAN1_RX_M0/PWM2_CH2_M0/I2C8_SCL_M0/SPI0_MOSI_M1/UART0_RX_M1/UART7_RX_M2/DSM_AUD_LP_M0/SDMMC0_D0_M0/FSPI1_D0_M0/GPIO2_A0_d>/3V3, C68 1C16/<MIPI_DPHY_CSI1_RX_CLKN>, C69 1A10/<CAN1_TX_M0/PWM2_CH3_M0/I2C8_SDA_M0/SPI0_MISO_M1/UART0_TX_M1/UART7_TX_M2/SAI3_MCLK_M1/DSM_AUD_LN_M0/SDMMC0_D1_M0/FSPI1_D1_M0/GPIO2_A1_d>/3V3, C70 GND (power), H3
part D pins: D1 VDD_5V_SOM (power), D2 P32/<NPOR_u>/1V8, D3 VDD_5V_SOM (power), D4 1M23/<I2C1_SDA_M0/SPI2_MOSI_M0/GPIO0_B3_z>/1V8, D5 VDD_5V_SOM (power), D6 T32/<I2C1_SCL_M0/SPI2_CLK_M0/GPIO0_B2_z>/1V8, D7 GND (power), D8 T33/<SPI2_CSN1_M0/SDMMC0_DETN_M0/GPIO0_A7_u>/1V8, D9 GND (power), D10 1K20/<AUPLL_CLK_IN/REF_CLK0_OUT/GPIO0_A0_d>/1V8, D11 GND (power), D12 1K22/<I2C6_SCL_M0/CLK0_32K_OUT/CLK_32K_IN/GPIO0_A2_d>/1V8, D13 RK806S_PWR_CTRL2/1V8, D14 1M20/<I2C6_SDA_M0/PWR_CTRL3/GPIO0_A5_z>/1V8, D15 RK806S_PWRON, D16 GND (power), D17 VDD_3V3_SOM_OUT, D18 1H22/<PCIE1_REFCLKN>, D19 VDD_ADJ_SD, D20 1H21/<PCIE1_REFCLKP>, D21 GND (power), D22 GND (power), D23 H33/<PCIE0_RXN_M1/SATA0_RXN_M1/USB_DRD1_SSRXN>, D24 L32/<PCIE1_TXN/SATA1_TXN>, D25 H32/<PCIE0_RXP_M1/SATA0_RXP_M1/USB_DRD1_SSRXP>, D26 L33/<PCIE1_TXP/SATA1_TXP> (power), D27 GND (power), D28 GND (power), D29 G33/<PCIE0_TXN_M1/SATA0_TXN_M1/USB_DRD1_SSTXN>, D30 K32/<PCIE1_RXN/SATA1_RXN>, D31 G32/<PCIE0_TXP_M1/SATA0_TXP_M1/USB_DRD1_SSTXP>, D32 K33/<PCIE1_RXP/SATA1_RXP>, D33 GND (power), D34 GND (power), D35 E33/<PCIE0_TXN_M0/SATA0_TXN_M0/USB_DRD0_SSTXN>, D36 1F22/<PCIE0_REFCLKN_M1>, D37 E32/<PCIE0_TXP_M0/SATA0_TXP_M0/USB_DRD0_SSTXP>, D38 1F21/<PCIE0_REFCLKP_M1>, D39 GND (power), D40 GND (power), D41 D32/<PCIE0_RXN_M0/SATA0_RXN_M0/USB_DRD0_SSRXN>, D42 1C14/<MIPI_DPHY_CSI0_RX_D1N>, D43 D33/<PCIE0_RXP_M0/SATA0_RXP_M0/USB_DRD0_SSRXP> (power), D44 1B14/<MIPI_DPHY_CSI0_RX_D1P>, D45 GND (power), D46 GND (power), D47 1D22/<PCIE0_REFCLKN_M0>, D48 B23/<MIPI_DPHY_CSI0_RX_D3N/MIPI_DPHY_CSI1_RX_D1N> (power), D49 1D21/<PCIE0_REFCLKP_M0>, D50 A23/<MIPI_DPHY_CSI0_RX_D3P/MIPI_DPHY_CSI1_RX_D1P> (power), D51 GND (power), D52 GND (power), D53 1C18/<USB_DRD0_VBUSDET>/3V3, D54 B20/<MIPI_DPHY_CSI0_RX_CLKN>, D55 A28/<USB_DRD1_ID>/1V8, D56 A20/<MIPI_DPHY_CSI0_RX_CLKP>, D57 A26/<USB_DRD1_DM>, D58 GND (power), D59 B26/<USB_DRD1_DP>, D60 B22/<MIPI_DPHY_CSI0_RX_D2N/MIPI_DPHY_CSI1_RX_D0N>, D61 B28/<USB_DRD1_VBUSDET>/3V3, D62 A22/<MIPI_DPHY_CSI0_RX_D2P/MIPI_DPHY_CSI1_RX_D0P>, D63 1B18/<USB_DRD0_ID>/1V8, D64 GND (power), D65 A25/<USB_DRD0_DM>, D66 B19/<MIPI_DPHY_CSI0_RX_D0N>, D67 B25/<USB_DRD0_DP>, D68 A19/<MIPI_DPHY_CSI0_RX_D0P>, D69 GND (power), D70 GND (power), H4

## B_S-2W_1
designator MK?, comment B0505S-1WR3L
DC-DC隔离电源,Vi=5V,Vo=5V,Io=200mA,3KV,η=77%,插件; Manufacturer: 广州金升阳科技有限公司（MORNSUN）; Manufacturer Character: 中国大陆; PCB Footprint: PW_4P_2D54_L116W60_180_DIP; As-Welded: /; room: RS485; Operation Temperature（℃）: -40~+105(Ta); ERP Number: 005.0001.0012.00022; Eco-Label: ROHS; Part Status: 优选; Manufacturer PartNumber: B0505S-1WR3L; Temperature: -40~85℃
footprint PW_4P_2D54_L116W60_180_DIP
pins: 1 -Vin, 2 +Vin, 3 0V, 4 +Vo

## B_S-2W_2
designator MK?, comment B1212XT-2WR3
DC-DC隔离电源,Vi=12V,Vo=12V,Io=167mA,1.5KV,η=80%,贴片; Manufacturer Character: 中国大陆; Manufacturer: 广州金升阳科技有限公司（MORNSUN）; PCB Footprint: PWRM_SMD_5P_L132W85_P254_LS114; Operation Temperature（℃）: -40~+105(Ta); As-Welded: /; ERP Number: 005.0001.0012.00054; Eco-Label: ROHS; Part Status: 试用; Temperature: -40~85℃; Manufacturer PartNumber: B1212XT-2WR3
footprint PWRM_SMD_5P_L132W85_P254_LS114
pins: 1 -Vin, 2 +Vin, 4 -Vo, 5 +Vo, 8 NC

## BATTERY
designator CON?, comment QJ.BS-6
贴片纽扣电池座,CR2032,2P,180度; Manufacturer Character: 中国大陆; Manufacturer: 深圳市琦捷电子有限公司（QIJEY）; PCB Footprint: CON_BATTERY_CR2032; Eco-Label: ROHS; ERP Number: 005.0001.0003.00097; Operation Temperature（℃）: /; room: 4; Part Status: 优选; Temperature: -55~85℃; Manufacturer PartNumber: QJ.BS-6; As-Welded: /
footprint CON_BATTERY_CR2032
pins: 1 +, 2 -

## CAP NP
designator C?, comment 47pF_50V
CC0402JRNPO9BN470; Manufacturer: 广州创龙; Manufacturer PartNumber: 47pF,5%,C0402,50V,（X7R,X5R,COG,NPO或X7S）; PCB Footprint: C0402; Eco-Label: ROHS; ERP PCB Footprint: C0603; ERP Number: 005.0001.0022.00100; As-Welded: /; Operation Temperature（℃）: -40~+85(Ta); Temperature: -55~125℃; Manufacturer Character: -; Part Status: -
footprint C0402
pins: 1, 2

## CAP NP_3
designator C?, comment 47uF_10V
贴片陶瓷电容,47uF,20%,10V,X5R; Manufacturer PartNumber: 0805X476M100NT; Manufacturer: 广东风华高新科技股份有限公司（FH）; Manufacturer Character: 中国大陆; PCB Footprint: C0805; Eco-Label: ROHS; ERP PCB Footprint: C1206; Operation Temperature（℃）: -55~+85(Ta); As-Welded: /; ERP Number: 005.0001.0001.00621; Temperature: -55~125℃; Part Status: 试用
footprint C0805
pins: 1, 2

## CAP NP_Dup2_4
designator C?, comment 2.2uF_25V
贴片陶瓷电容,2.2uF,10%,25V,X7R; Manufacturer: 广东风华高新科技股份有限公司（FH）; Manufacturer PartNumber: 1206B225K250NT; Manufacturer Character: 中国大陆; Eco-Label: ROHS; ERP Number: 005.0001.0001.00646; Operation Temperature（℃）: -55~+125(Ta); As-Welded: /; PCB Footprint: C1206; Part Status: 试用
footprint C1206
pins: 1, 2

## CAP NP_Dup2_6
designator C?, comment 22pF_50V
贴片陶瓷电容,22pF,5%,50V,COG; Manufacturer PartNumber: 0603CG220J500NT; Manufacturer: 广东风华高新科技股份有限公司（FH）; Manufacturer Character: 中国大陆; As-Welded: /; Operation Temperature（℃）: -55~+125(Ta); ERP Number: 005.0001.0001.00542; Eco-Label: EXEMPTION; PCB Footprint: C0603; Temperature: -55~125℃; Part Status: 优选
footprint C0603
pins: 1, 2

## CAP POL
designator C?, comment 220uF_25V
贴片式铝电解电容,220uF,20%,25V; Manufacturer PartNumber: HDS1E221M0607VG; Manufacturer: 东莞市合粤电子有限公司（Heyue）; Manufacturer Character: 中国大陆; PCB Footprint: SMD-ALU-L66H66; Eco-Label: ROHS; ERP PCB Footprint: SMD-ALU-L90H83; ERP Number: 005.0001.0001.00688; room: DCIN; Operation Temperature（℃）: -55~+105(Ta); As-Welded: /; Temperature: -55~125℃; Part Status: 测评
footprint SMD-ALU-L66H66
pins: 1, 2
text: +

## CAP POL_Dup1
designator C?, comment 220uF_35V
贴片式铝电解电容,220uF,20%,35V; Manufacturer PartNumber: RVT1V221M0810VG; Manufacturer: 东莞市合粤电子有限公司（Heyue）; Manufacturer Character: 中国大陆; As-Welded: /; room: DCIN; Operation Temperature（℃）: -55~+105(Ta); ERP Number: 005.0001.0001.00586; Eco-Label: ROHS; PCB Footprint: cap_alu_smd_8x10d5; Temperature: -55~105℃; Part Status: 优选
footprint cap_alu_smd_8x10d5
pins: 1, 2
text: +

## CAP POL_Dup1_1
designator C?, comment 7F_2.7V
超级电容,7F,2.7V,卧式; Manufacturer PartNumber: HT-2R7-J705UYJ13(G211）; Manufacturer: 锦州凯美能源有限公司（KAMCAP）; Manufacturer Character: 中国大陆; PCB Footprint: dcc3-5_0-10_5x20_5_0-down; As-Welded: /; room: DCIN; Operation Temperature（℃）: -40~85(Ta); ERP Number: 005.0001.0001.00732; Eco-Label: ROHS; Temperature: -55~105℃; Part Status: 试用
footprint dcc3-5_0-10_5x20_5_0-down
pins: 1, 2
text: +

## CAP POL_Dup1_2
designator C?, comment 220uF_10V
D型钽电容,220uF,10%,10V; Manufacturer: 湖南湘怡中元科技有限公司（XIANGYEE）; Manufacturer PartNumber: CA45-D010K227T; Manufacturer Character: 中国大陆; PCB Footprint: CAP-CASE-D; Eco-Label: ROHS; ERP Number: 005.0001.0001.00571; Operation Temperature（℃）: -55~+125(Ta); As-Welded: /; Temperature: -55~125℃; Part Status: 优选
footprint CAP-CASE-D
pins: 1, 2
text: +

## CH224K
designator U?, comment DNP_CH224K
USB Type-C PD 受电芯片; Manufacturer PartNumber: CH224K; Manufacturer: 南京沁恒微电子股份有限公司（WCH）; Manufacturer Character: 中国大陆; Eco-Label: ROHS; ERP Number: 005.0001.0004.01153; Operation Temperature（℃）: -40~+90(Ta); As-Welded: DNP; PCB Footprint: ESSOP-10; Part Status: 测评
footprint ESSOP-10
pins: 1 VDD (power), 2 CFG2, 3 CFG3, 4 DP, 5 DM, 6 CC2, 7 CC1, 8 VBUS, 9 CFG1, 10 PG, 11 GND (power)

## CH340T
designator U?
USB转UART芯片; Manufacturer Character: 中国大陆; Manufacturer: 南京沁恒微电子股份有限公司（WCH）; PCB Footprint: TSSOP-20; Eco-Label: ROHS; ERP Number: 005.0001.0004.00479; As-Welded: /; Operation Temperature（℃）: -40~+85(Ta); Part Status: 优选; Temperature: -40~85℃; Manufacturer PartNumber: CH340T
footprint TSSOP-20
pins: 1 CK0, 2 ACT#, 3 TXD, 4 RXD, 5 V3, 6 UD+, 7 UD-, 8 GND, 9 XI, 10 XO, 11 CTS#, 12 DSR#, 13 RI#, 14 DCD#, 15 DTR#, 16 RTS#, 17 NC., 18 R232, 19 VCC, 20 NOS#

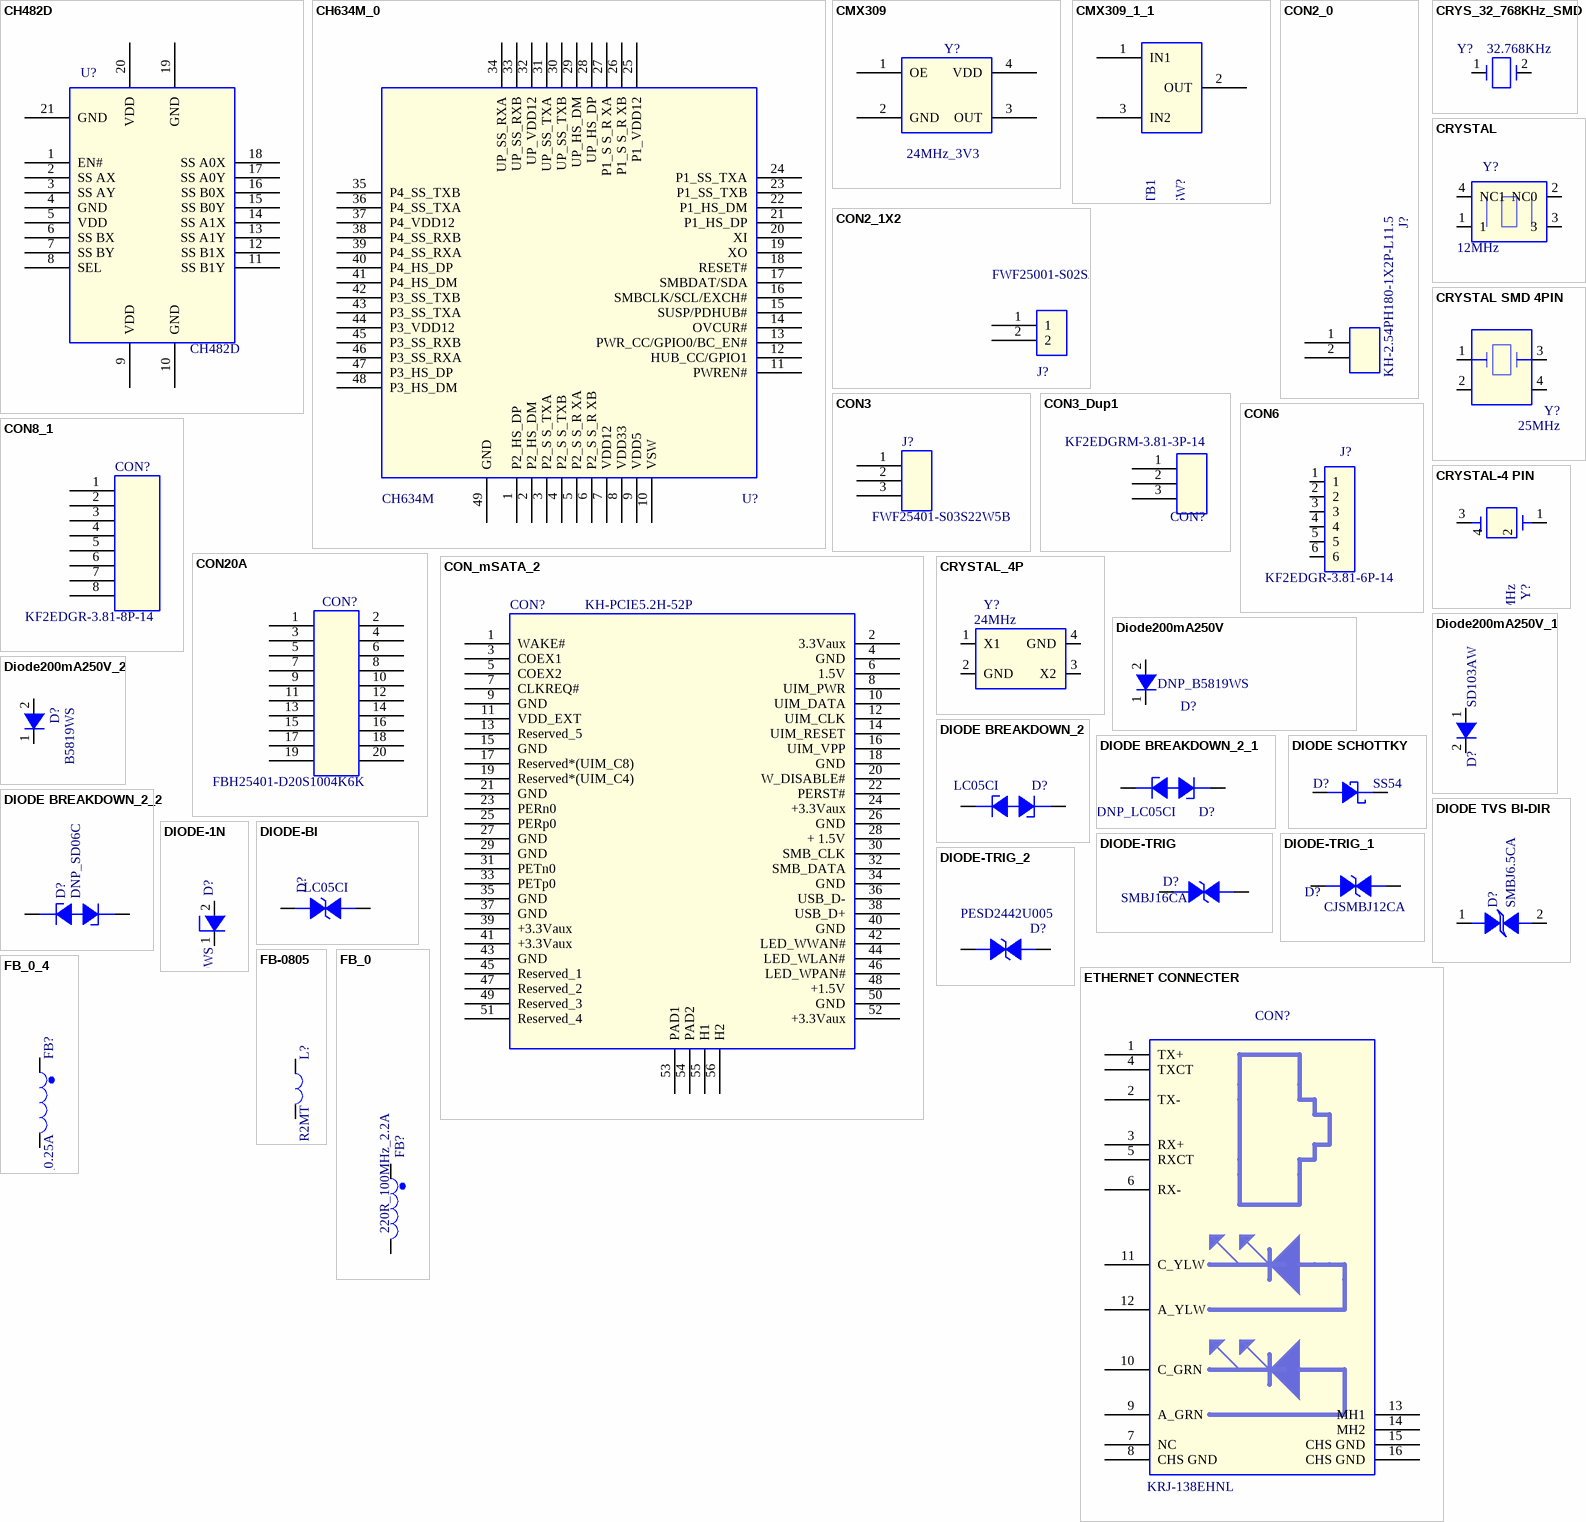
[diagram p2: symbols CH482D to FB_0_4]

## CH482D
designator U?
两路2选1模拟开关复用器; Manufacturer: 南京沁恒微电子股份有限公司（WCH）; Manufacturer Character: 中国大陆; PCB Footprint: qfn2545-20-ch482d; As-Welded: /; Operation Temperature（℃）: -40~+85(Ta); ERP Number: 005.0001.0004.00966; Eco-Label: ROHS; ERP PCB Footprint: QFN-20; Part Status: 试用; Manufacturer PartNumber: CH482D
footprint qfn2545-20-ch482d
pins: 1 EN#, 2 SS AX, 3 SS AY, 4 GND (power), 5 VDD (power), 6 SS BX, 7 SS BY, 8 SEL, 9 VDD (power), 10 GND (power), 11 SS B1Y, 12 SS B1X, 13 SS A1Y, 14 SS A1X, 15 SS B0Y, 16 SS B0X, 17 SS A0Y, 18 SS A0X, 19 GND (power), 20 VDD (power), 21 GND (power)

## CH634M_0
designator U?, comment CH634M
USB 3.2 Gen1 HUB控制器; Manufacturer Character: 中国大陆; Manufacturer: 南京沁恒微电子股份有限公司（WCH）; PCB Footprint: QFN48_5x5; Eco-Label: ROHS; Operation Temperature（℃）: -40~+85(Ta); As-Welded: /; ERP Number: 005.0001.0004.01286; Manufacturer PartNumber: CH634M; Part Status: 测评
footprint QFN48_5x5
pins: 1 P2_HS_DP, 2 P2_HS_DM, 3 P2_S S_TXA, 4 P2_S S_TXB, 5 P2_S S_R XA, 6 P2_S S_R XB, 7 VDD12, 8 VDD33, 9 VDD5, 10 VSW, 11 PWREN#, 12 HUB_CC/GPIO1, 13 PWR_CC/GPIO0/BC_EN#, 14 OVCUR#, 15 SUSP/PDHUB#, 16 SMBCLK/SCL/EXCH#, 17 SMBDAT/SDA, 18 RESET#, 19 XO, 20 XI, 21 P1_HS_DP, 22 P1_HS_DM, 23 P1_SS_TXB, 24 P1_SS_TXA, 25 P1_VDD12, 26 P1_S S_R XB, 27 P1_S S_R XA, 28 UP_HS_DP, 29 UP_HS_DM, 30 UP_SS_TXB, 31 UP_SS_TXA, 32 UP_VDD12, 33 UP_SS_RXB, 34 UP_SS_RXA, 35 P4_SS_TXB, 36 P4_SS_TXA, 37 P4_VDD12, 38 P4_SS_RXB, 39 P4_SS_RXA, 40 P4_HS_DP, 41 P4_HS_DM, 42 P3_SS_TXB, 43 P3_SS_TXA, 44 P3_VDD12, 45 P3_SS_RXB, 46 P3_SS_RXA, 47 P3_HS_DP, 48 P3_HS_DM, 49 GND

## CMX309
designator Y?, comment 24MHz_3V3
四脚有源晶振,24MHz,1.62V~3.63V,CMOS,±30ppm; Manufacturer Character: 中国大陆; Manufacturer: 深圳市星通时频电子有限公司（SCTF）; Mfr_Part_Number: S3M24.576B20F30TNN; Mfr_Name: Citizen; Manufacturer PartNumber: SX3M24.000M20F30TNN; PCB Footprint: SMD_3225; ERP Number: 005.0001.0005.00121; room: 14; As-Welded: /; Operation Temperature（℃）: -40~+85(Ta); Eco-Label: ROHS; Part Status: 试用; ROHS: Yes; DATASHEET_PATH: M:\OrCad\CIS_database\Logic_Data_Sheets\Crystals_Oscillators\Citizen\CSX_750F.pdf; WEB_LINK: http://LPDSRV18.logicpd.com:8010/Everest_LOGIC/HcmServlet?action=OpenEmailObject&classid=21&objid=6273689; Temperature: -40~85℃
footprint SMD_3225
pins: 1 OE, 2 GND, 3 OUT, 4 VDD

## CMX309_1_1
designator SW?, comment DNP_CJS-1201TB1
LPD_Part_Number: 1012777; Mfr_Part_Number: S3M24.576B20F30TNN; Mfr_Name: Citizen; room: 14; As-Welded: DNP; PCB Footprint: SW_SMD_3P_L60W25_P350_LS42; Part Status: 试用; ROHS: Yes; DATASHEET_PATH: M:\OrCad\CIS_database\Logic_Data_Sheets\Crystals_Oscillators\Citizen\CSX_750F.pdf; WEB_LINK: http://LPDSRV18.logicpd.com:8010/Everest_LOGIC/HcmServlet?action=OpenEmailObject&classid=21&objid=6273689; Temperature: -40~85℃
footprint SW_SMD_3P_L60W25_P350_LS42
pins: 1 IN1, 2 OUT, 3 IN2

## CON2_0
designator J?, comment KH-2.54PH180-1X2P-L11.5
插件单排排针,1x2P,2.54mm,180度; Manufacturer: 深圳市金航标电子有限公司(kinghelm); Manufacturer Character: 中国大陆; PCB Footprint: header_1x2p_2d54_male; As-Welded: /; Operation Temperature（℃）: -40~+105(Ta); ERP Number: 005.0001.0003.00566; Eco-Label: ROHS; Temperature: -40~105℃; Manufacturer PartNumber: KH-2.54PH180-1X2P-L11.5; Part Status: 优选
footprint header_1x2p_2d54_male
pins: 1, 2

## CON2_1X2
designator J?, comment FWF25001-S02S22W1B
直插PH端子座,2P,2.00mm,白色; Manufacturer: 深圳特思嘉工业电子有限公司（TXGA）; Manufacturer Character: 中国大陆; Manufacturer PartNumber: FWF20001-S02S22W1B; PCB Footprint: CN2M_2R00_V_P_DIP; Eco-Label: ROHS; ERP Number: 005.0001.0003.00727; Operation Temperature（℃）: -40~+105(Ta); RK PN: CW2001-02G-S03-C; Priority: A; As-Welded: /; ERP PCB Footprint: CON_XH_1x2P_2D5_180_DIP; Part Status: 测评; Part Type: Header; Manufacturer Part Number: CW2001-02G-S03-C; Created by: YWQ
footprint CN2M_2R00_V_P_DIP
pins: 1, 2

## CON3
designator J?, comment FWF25401-S03S22W5B
插件针座连接器,3P,间距2.54mm,180度,白色; Manufacturer: 深圳特思嘉工业电子有限公司（TXGA）; Manufacturer Character: 中国大陆; PCB Footprint: mol22-23-2031; Operation Temperature（℃）: -25~+85(Ta); As-Welded: /; ERP Number: 005.0001.0003.00499; Eco-Label: ROHS; Part Status: 优选; Temperature: -25~85℃; Manufacturer PartNumber: FWF25401-S03S22W5B
footprint mol22-23-2031
pins: 1, 2, 3

## CON3_Dup1
designator CON?, comment KF2EDGRM-3.81-3P-14
插拔式端子座,1x3P,3.81mm,90度,带法兰; Manufacturer: 慈溪市科发电子有限公司（KEFA）; Manufacturer Character: 中国大陆; As-Welded: /; room: 17; Operation Temperature（℃）: -40~+105(Ta); ERP Number: 005.0001.0003.00144; Eco-Label: ROHS; PCB Footprint: CON_3P_3D81_90_MALE_A; Manufacturer PartNumber: KF2EDGRM-3.81-3P-14; Part Status: 试用
footprint CON_3P_3D81_90_MALE_A
pins: 1, 2, 3

## CON6
designator J?, comment KF2EDGR-3.81-6P-14
插拔式端子座,1x6P,3.81mm,90度; Manufacturer: 慈溪市科发电子有限公司（KEFA）; Manufacturer Character: 中国大陆; PCB Footprint: kf2eg_3_81-6p; Eco-Label: ROHS; ERP Number: 005.0001.0003.00419; As-Welded: /; Operation Temperature（℃）: -40~+105(Ta); Part Status: 优选; Manufacturer PartNumber: KF2EDGR-3.81-6P-14
footprint kf2eg_3_81-6p
pins: 1, 2, 3, 4, 5, 6

## CON8_1
designator CON?, comment KF2EDGR-3.81-8P-14
插拔式端子座,1x8P,3.81mm,90度; Manufacturer Character: 中国大陆; Manufacturer: 慈溪市科发电子有限公司（KEFA）; PCB Footprint: CON_KF2EDGR-3R81-8P-14_90_DIP; Eco-Label: ROHS; Operation Temperature（℃）: -40~+105(Ta); As-Welded: /; Manufacturer PartNumber: KF2EDGR-3.81-8P-14
footprint CON_KF2EDGR-3R81-8P-14_90_DIP
pins: 1, 2, 3, 4, 5, 6, 7, 8

## CON20A
designator CON?, comment FBH25401-D20S1004K6K
简易牛角座,2x10P,2.54mm,公座,黑色,180度; Manufacturer Character: 中国大陆; Manufacturer: 深圳特思嘉工业电子有限公司（TXGA）; Eco-Label: ROHS; ERP Number: 005.0001.0003.00591; Operation Temperature（℃）: -40~+105(Ta); As-Welded: /; PCB Footprint: con_2d54_2x10_th_box_90; Part Status: 试用; Manufacturer PartNumber: FBH25401-D20S1004K6K
footprint con_2d54_2x10_th_box_90
pins: 1, 2, 3, 4, 5, 6, 7, 8, 9, 10, 11, 12, 13, 14, 15, 16, 17, 18, 19, 20

## CON_mSATA_2
designator CON?, comment KH-PCIE5.2H-52P
贴片mini PCIE插槽,52P,0.8mm间距,母座,H=5.2mm; Manufacturer: 深圳市金航标电子有限公司(kinghelm); Manufacturer Character: 中国大陆; PCB Footprint: aaa-pci-047-k01; ERP Number: 005.0001.0003.00514; Operation Temperature（℃）: /; ERP PCB Footprint: CON_MNPCIE_52P_0D8_SMD; Eco-Label: ROHS; Part Status: 优选; As-Welded: /; Manufacturer PartNumber: KH-PCIE5.2H-52P; Temperature: -25~80℃
footprint aaa-pci-047-k01
pins: 1 WAKE#, 2 3.3Vaux (power), 3 COEX1, 4 GND (power), 5 COEX2, 6 1.5V, 7 CLKREQ#, 8 UIM_PWR, 9 GND (power), 10 UIM_DATA, 11 VDD_EXT, 12 UIM_CLK, 13 Reserved_5, 14 UIM_RESET, 15 GND (power), 16 UIM_VPP, 17 Reserved*(UIM_C8), 18 GND (power), 19 Reserved*(UIM_C4), 20 W_DISABLE#, 21 GND (power), 22 PERST#, 23 PERn0, 24 +3.3Vaux (power), 25 PERp0, 26 GND (power), 27 GND (power), 28 + 1.5V, 29 GND (power), 30 SMB_CLK, 31 PETn0, 32 SMB_DATA, 33 PETp0, 34 GND (power), 35 GND (power), 36 USB_D-, 37 GND (power), 38 USB_D+, 39 +3.3Vaux (power), 40 GND (power), 41 +3.3Vaux (power), 42 LED_WWAN#, 43 GND (power), 44 LED_WLAN#, 45 Reserved_1, 46 LED_WPAN#, 47 Reserved_2, 48 +1.5V, 49 Reserved_3, 50 GND (power), 51 Reserved_4, 52 +3.3Vaux (power), 53 PAD1, 54 PAD2, 55 H1, 56 H2

## CRYS_32_768KHz_SMD
designator Y?, comment 32.768KHz
两脚无源晶振,32.768KHz,±20ppm,12.5pF,80KΩ,±20ppm; PartName: Crystal32.768KHzMC306; Mfr: Epson; MfrNum: MC-30632.7680k-A; TIIntPartnumber: 1Y0029; Manufacturer Character: 中国大陆; Manufacturer PartNumber: SF20WK32768D31T007; Manufacturer: 泰晶科技股份有限公司(TKD); TN: tbd; Vendor: Digikey; Cost100: 0.41; Cost10K: 0.338; PCB Footprint: smd; Eco-Label: ROHS; ERP Number: 005.0001.0005.00086; Operation Temperature（℃）: -40~+85(Ta); As-Welded: /; Part Status: 优选; Temperature: -40~85℃
footprint SMD_2012
pins: 1, 2

## CRYSTAL
designator Y?, comment 12MHz
四脚无源晶振,12MHz,±10ppm,12pF,100Ω,±30ppm; Manufacturer Character: 中国大陆; Manufacturer: 深圳市星通时频电子有限公司（SCTF）; Manufacturer PartNumber: S3B12.000F1210F30; PCB Footprint: SMD_3225; Eco-Label: ROHS; ERP Number: 005.0001.0005.00120; As-Welded: /; Operation Temperature（℃）: -40~+85(Ta); Part Status: 试用; Temperature: -40~85℃
footprint SMD_3225
pins: 1, 2 NC0, 3, 4 NC1

## CRYSTAL SMD 4PIN
designator Y?, comment 25MHz
四脚无源晶振,25MHz,±10ppm,12pF,30Ω,±30ppm; Manufacturer Character: 中国大陆; Manufacturer PartNumber: S3B25.000F1210F30; Manufacturer: 深圳市星通时频电子有限公司（SCTF）; PCB Footprint: SMD_3225; room: RGMII1; Operation Temperature（℃）: -40~+85(Ta); As-Welded: /; ERP Number: 005.0001.0005.00124; Eco-Label: ROHS; Part Status: 试用; Temperature: -55~150℃
footprint SMD_3225
pins: 1, 2, 3, 4

## CRYSTAL-4 PIN
designator Y?, comment 25MHz
四脚无源晶振,25MHz,±10ppm,12pF,30Ω,±30ppm; Manufacturer Character: 中国大陆; Manufacturer PartNumber: S3B25.000F1210F30; Manufacturer: 深圳市星通时频电子有限公司（SCTF）; ERP Number: 005.0001.0005.00124; As-Welded: /; Operation Temperature（℃）: -40~+85(Ta); Eco-Label: ROHS; PCB Footprint: SMD_3225; Temperature: -40~85; Part Status: 试用
footprint SMD_3225
pins: 1, 2, 3, 4

## CRYSTAL_4P
designator Y?, comment 24MHz
四脚无源晶振,24MHz,±10ppm,12pF,100Ω,±30ppm; Manufacturer: 深圳市星通时频电子有限公司（SCTF）; Manufacturer Character: 中国大陆; Manufacturer PartNumber: S3B24.000F1210F30; As-Welded: /; RK PN: E3SB24.0000F08E11; Priority: A; Operation Temperature（℃）: -40~+85(Ta); ERP Number: 005.0001.0005.00122; Eco-Label: ROHS; Part Status: 试用; Part Type: CRYSTAL; Manufacturer PN: E3SB24.0000F08E11; Created by: JJJ
footprint SMD_3225
pins: 1 X1, 2 GND (power), 3 X2, 4 GND (power)

## Diode200mA250V
designator D?, comment DNP_B5819WS
肖特基二极管,VR=40V,IF=1A,VF=0.6V@1A; TIIntPartnumber: 1E0013; MfrNum: MMSD103T1G; Mfr: On Semiconductor; PartName: Diode200mA250V; Manufacturer Character: 中国大陆; Manufacturer: 江苏长晶科技股份有限公司（JSCJ）; DescriptiveText: Diode 200mA 250V 1.25V Forward Drop; PCB Footprint: smd123; Cost10K: 0.07; Cost100: 0.23; Vendor: Digikey; ERP Number: 005.0001.0010.00093; As-Welded: DNP; Operation Temperature（℃）: -55~+125(Tj); Eco-Label: ROHS; Descriptive_Text: Diode 200mA 250V 1.25V Forward Drop; Temperature: -55~150; Manufacturer PartNumber: B5819WS; Part Status: 优选
footprint SOD-323
pins: 1 Cathode, 2 Anode

## Diode200mA250V_1
designator D?, comment SD103AW
肖特基二极管,VR=40V,IF=350mA,VF=0.37V@20mA,trr=10ns; TIIntPartnumber: 1E0013; MfrNum: MMSD103T1G; Mfr: On Semiconductor; PartName: Diode200mA250V; Manufacturer Character: 中国大陆; Manufacturer: 江苏长晶科技股份有限公司（JSCJ）; DescriptiveText: Diode 200mA 250V 1.25V Forward Drop; PCB Footprint: smd123; Cost10K: 0.07; Cost100: 0.23; Vendor: Digikey; Eco-Label: ROHS; ERP PCB Footprint: SOD-123; ERP Number: 005.0001.0010.00103; Operation Temperature（℃）: -40~+125(Tj); As-Welded: /; Descriptive_Text: Diode 200mA 250V 1.25V Forward Drop; Temperature: -55~150℃; Manufacturer PartNumber: SD103AW; Part Status: 优选
footprint SOD-123_NEW
pins: 1 Anode, 2 Cathode

## Diode200mA250V_2
designator D?, comment B5819WS
肖特基二极管,VR=40V,IF=1A,VF=0.6V@1A; PartName: Diode200mA250V; Mfr: On Semiconductor; MfrNum: MMSD103T1G; TIIntPartnumber: 1E0013; Manufacturer Character: 中国大陆; Manufacturer: 江苏长晶科技股份有限公司（JSCJ）; Descriptive_Text: Diode 200mA 250V 1.25V Forward Drop; Vendor: Digikey; Cost100: 0.23; Cost10K: 0.07; PCB Footprint: smd123; Eco-Label: ROHS; ERP Number: 005.0001.0010.00093; As-Welded: /; Operation Temperature（℃）: -55~+125(Tj); DescriptiveText: Diode 200mA 250V 1.25V Forward Drop; Part Status: 优选; Temperature: -40~125℃; Manufacturer PartNumber: B5819WS
footprint SOD-323
pins: 1 Anode, 2 Cathode

## DIODE BREAKDOWN_2
designator D?, comment LC05CI
TVS二极管,VRWM=5V,VBR=6V,一组,双向,30KV,30KV; Manufacturer: 上海雷卯电子科技有限公司（Leiditech）; Manufacturer Character: 中国大陆; Operation Temperature（℃）: -55~+125(Tj); room: KEY; As-Welded: /; ERP Number: 005.0001.0017.00060; Eco-Label: ROHS; PCB Footprint: SOD323; Part Status: 优选; Temperature: -60~150℃; Manufacturer PartNumber: LC05CI; Manufacturer Part Number: LC05CI
footprint SOD323
pins: 1 ANODE1, 2 CATHODE2

## DIODE BREAKDOWN_2_1
designator D?, comment DNP_LC05CI
TVS二极管,VRWM=5V,VBR=6V,一组,双向,30KV,30KV; Manufacturer Part Number: PESD3V3L1BA; Manufacturer PartNumber: LC05CI; Manufacturer: 上海雷卯电子科技有限公司（Leiditech）; Manufacturer Character: 中国大陆; PCB Footprint: SOD323_BI; Eco-Label: ROHS; ERP PCB Footprint: SOD323; As-Welded: DNP; Operation Temperature（℃）: -55~+125(Tj); room: KEY; ERP Number: 005.0001.0017.00060; Temperature: -55~155℃; Part Status: 优选
footprint SOD323_BI
pins: 1 ANODE1, 2 CATHODE2

## DIODE BREAKDOWN_2_2
designator D?, comment DNP_SD06C
TVS二极管,VRWM=6V,VBR=6.5V,一组,双向,30KV,30KV; Manufacturer Character: 中国大陆; Manufacturer: 上海雷卯电子科技有限公司（Leiditech）; Manufacturer PartNumber: SD06C; Manufacturer Part Number: PESD3V3L1BA; ERP Number: 005.0001.0017.00096; room: KEY; Operation Temperature（℃）: -55~+150(Tj); As-Welded: DNP; Eco-Label: ROHS; PCB Footprint: SOD323; Temperature: -55~155℃; Part Status: 试用
footprint SOD323
pins: 1 ANODE1, 2 CATHODE2

## DIODE SCHOTTKY
designator D?, comment SS54
肖特基二极管,VR=40V,IF=5A,VF=0.55V@5A; Manufacturer: 江苏长晶科技股份有限公司（JSCJ）; Manufacturer Character: 中国大陆; As-Welded: /; Operation Temperature（℃）: -55~+125(Tj); ERP Number: 005.0001.0010.00098; Eco-Label: ROHS; PCB Footprint: SMA; Manufacturer PartNumber: SS54; Temperature: -55~125℃; Part Status: 试用
footprint SMA
pins: 1 ANODE, 2 CATHODE

## DIODE TVS BI-DIR
designator D?, comment SMBJ6.5CA
TVS二极管,VRWM=6.5V,VBR=7.22V,一组,双向; Manufacturer Character: 中国大陆; Manufacturer: 上海雷卯电子科技有限公司（Leiditech）; PCB Footprint: SMB; Operation Temperature（℃）: -55~+150(Tj); room: 6; ERP Number: 005.0001.0017.00087; Eco-Label: ROHS; As-Welded: /; Manufacturer PartNumber: SMBJ6.5CA; Part Status: 测评
footprint SMB
pins: 1, 2

## DIODE-1N
designator D?, comment B5819WS
肖特基二极管,VR=40V,IF=1A,VF=0.6V@1A; PartName: Diode200mA250V; Mfr: On Semiconductor; MfrNum: MMSD103T1G; TIIntPartnumber: 1E0013; Manufacturer Character: 中国大陆; Manufacturer: 江苏长晶科技股份有限公司（JSCJ）; Descriptive_Text: Diode 200mA 250V 1.25V Forward Drop; Vendor: Digikey; Cost100: 0.23; Cost10K: 0.07; PCB Footprint: smd123; Operation Temperature（℃）: -55~+125(Tj); As-Welded: /; ERP Number: 005.0001.0010.00093; Eco-Label: ROHS; DescriptiveText: Diode 200mA 250V 1.25V Forward Drop; Manufacturer PartNumber: B5819WS; Temperature: -55~150℃; Part Status: 优选
footprint SOD-323
pins: 1 Cathode, 2 Anode

## DIODE-BI
designator D?, comment LC05CI
TVS二极管,VRWM=5V,VBR=6V,一组,双向,30KV,30KV; Manufacturer: 上海雷卯电子科技有限公司（Leiditech）; Manufacturer Character: 中国大陆; Eco-Label: ROHS; ERP Number: 005.0001.0017.00060; As-Welded: /; Operation Temperature（℃）: -55~+125(Tj); room: KEY; PCB Footprint: SOD323; Temperature: -55~155℃; Manufacturer Part Number: LC05CI; Manufacturer PartNumber: LC05CI; Part Status: 优选
footprint SOD323
pins: 1, 2

## DIODE-TRIG
designator D?, comment SMBJ16CA
TVS二极管,VRWM=16V,VBR=17.8V,一组,双向; Manufacturer: 江苏长晶科技有限公司（JSCJ）; Manufacturer Character: 中国大陆; ERP Number: 005.0001.0017.00077; room: DCIN; Operation Temperature（℃）: -55~+150(Tj); As-Welded: /; Eco-Label: ROHS; PCB Footprint: SMB; Part Status: 试用; Manufacturer PartNumber: SMBJ16CA; Temperature: -55~150℃
footprint SMB
pins: 1, 2

## DIODE-TRIG_1
designator D?, comment CJSMBJ12CA
TVS二极管,VRWM=12V,VBR=13.35V,一组,双向; Manufacturer: 江苏长晶科技股份有限公司（JSCJ）; Manufacturer Character: 中国大陆; Eco-Label: ROHS; ERP Number: 005.0001.0017.00082; room: DCIN; Operation Temperature（℃）: -55~+150(Tj); As-Welded: /; PCB Footprint: SMB; Part Status: 试用; Manufacturer PartNumber: CJSMBJ12CA; Temperature: -55~150℃
footprint SMB
pins: 1, 2

## DIODE-TRIG_2
designator D?, comment PESD2442U005
ESD二极管,VRWM=24V,VBR=300V,一组,双向,8KV,15KV; Manufacturer Character: 中国大陆; Manufacturer: 上海雷卯电子科技有限公司（Leiditech）; Operation Temperature（℃）: -40~+90(Tj); ERP Number: 005.0001.0017.00056; Eco-Label: ROHS; As-Welded: /; PCB Footprint: ESD_0402; Manufacturer PartNumber: PESD2442U005; Temperature: -55~125℃; Part Status: 优选
footprint ESD_0402
pins: 1, 2

## ETHERNET CONNECTER
designator CON?, comment KRJ-138EHNL
RJ45连接器,12P,2.54mm间距,单层母座,90度,插件; Manufacturer Character: 中国大陆; Manufacturer: 东莞市科优达电子科技有限公司（DGKYD）; room: ecat1; Operation Temperature（℃）: -40~+85(Ta); As-Welded: /; ERP Number: 005.0001.0003.00314; Eco-Label: ROHS; PCB Footprint: CON_YDS_13F-64GYD2PLXNL; Manufacturer PartNumber: KRJ-138EHNL; Manufacturer Part Number: KRJ-138EHNL; Temperature: -40~85℃; Part Status: 优选
footprint CON_YDS_13F-64GYD2PLXNL
pins: 1 TX+, 2 TX-, 3 RX+, 4 TXCT, 5 RXCT, 6 RX-, 7 NC, 8 CHS GND (power), 9 A_GRN, 10 C_GRN, 11 C_YLW, 12 A_YLW, 13 MH1, 14 MH2, 15 CHS GND (power), 16 CHS GND (power)

## FB-0805
designator L?, comment WPN252010U2R2MT
贴片功率电感,2.2uH,0.096Ω,Isat=2.9A,Irms=2.4A; Manufacturer Character: 中国大陆; Manufacturer: 深圳顺络电子股份有限公司（Sunlord）; PCB Footprint: SMD-L2520M-2P; As-Welded: /; Operation Temperature（℃）: -40~+125(Ta); Temperature: -40~125; Manufacturer PartNumber: WPN252010U2R2MT
footprint SMD-L2520M-2P
pins: 1, 2

## FB_0
designator FB?, comment 220R_100MHz_2.2A
磁珠,50mΩ,2.2A,220R@100MHz; Manufacturer Character: 中国大陆; Manufacturer PartNumber: UPZ1608U221-2R2TF; Manufacturer: 深圳顺络电子股份有限公司（Sunlord）; PCB Footprint: L0603; Operation Temperature（℃）: -55~+125(Ta); Eco-Label: ROHS; ERP Number: 005.0001.0007.00015; As-Welded: /; Temperature: -55~125℃; Part Status: 限选
footprint L0603
pins: 1, 2

## FB_0_4
designator FB?, comment 1000R_100MHz_0.25A
磁珠,900mΩ,0.25A,1000R@100MHz; Manufacturer Character: 中国大陆; Manufacturer: 广东风华高新科技股份有限公司(FH); Manufacturer PartNumber: CBW100505U102T; Eco-Label: ROHS; Operation Temperature（℃）: -55~+125(Ta); Purchase Information: 07558255526 小商行电子; Standard PCB Footprint: 603; PCB Footprint Status: Checked; ERP Number: 005.0001.0007.00021; As-Welded: /; PCB Footprint: L0402; Part Status: 试用; Price: 0.011; Part Type: BEAD; Part Number: 647-01-3069; Temperature: -55~125℃
footprint L0402
pins: 1, 2

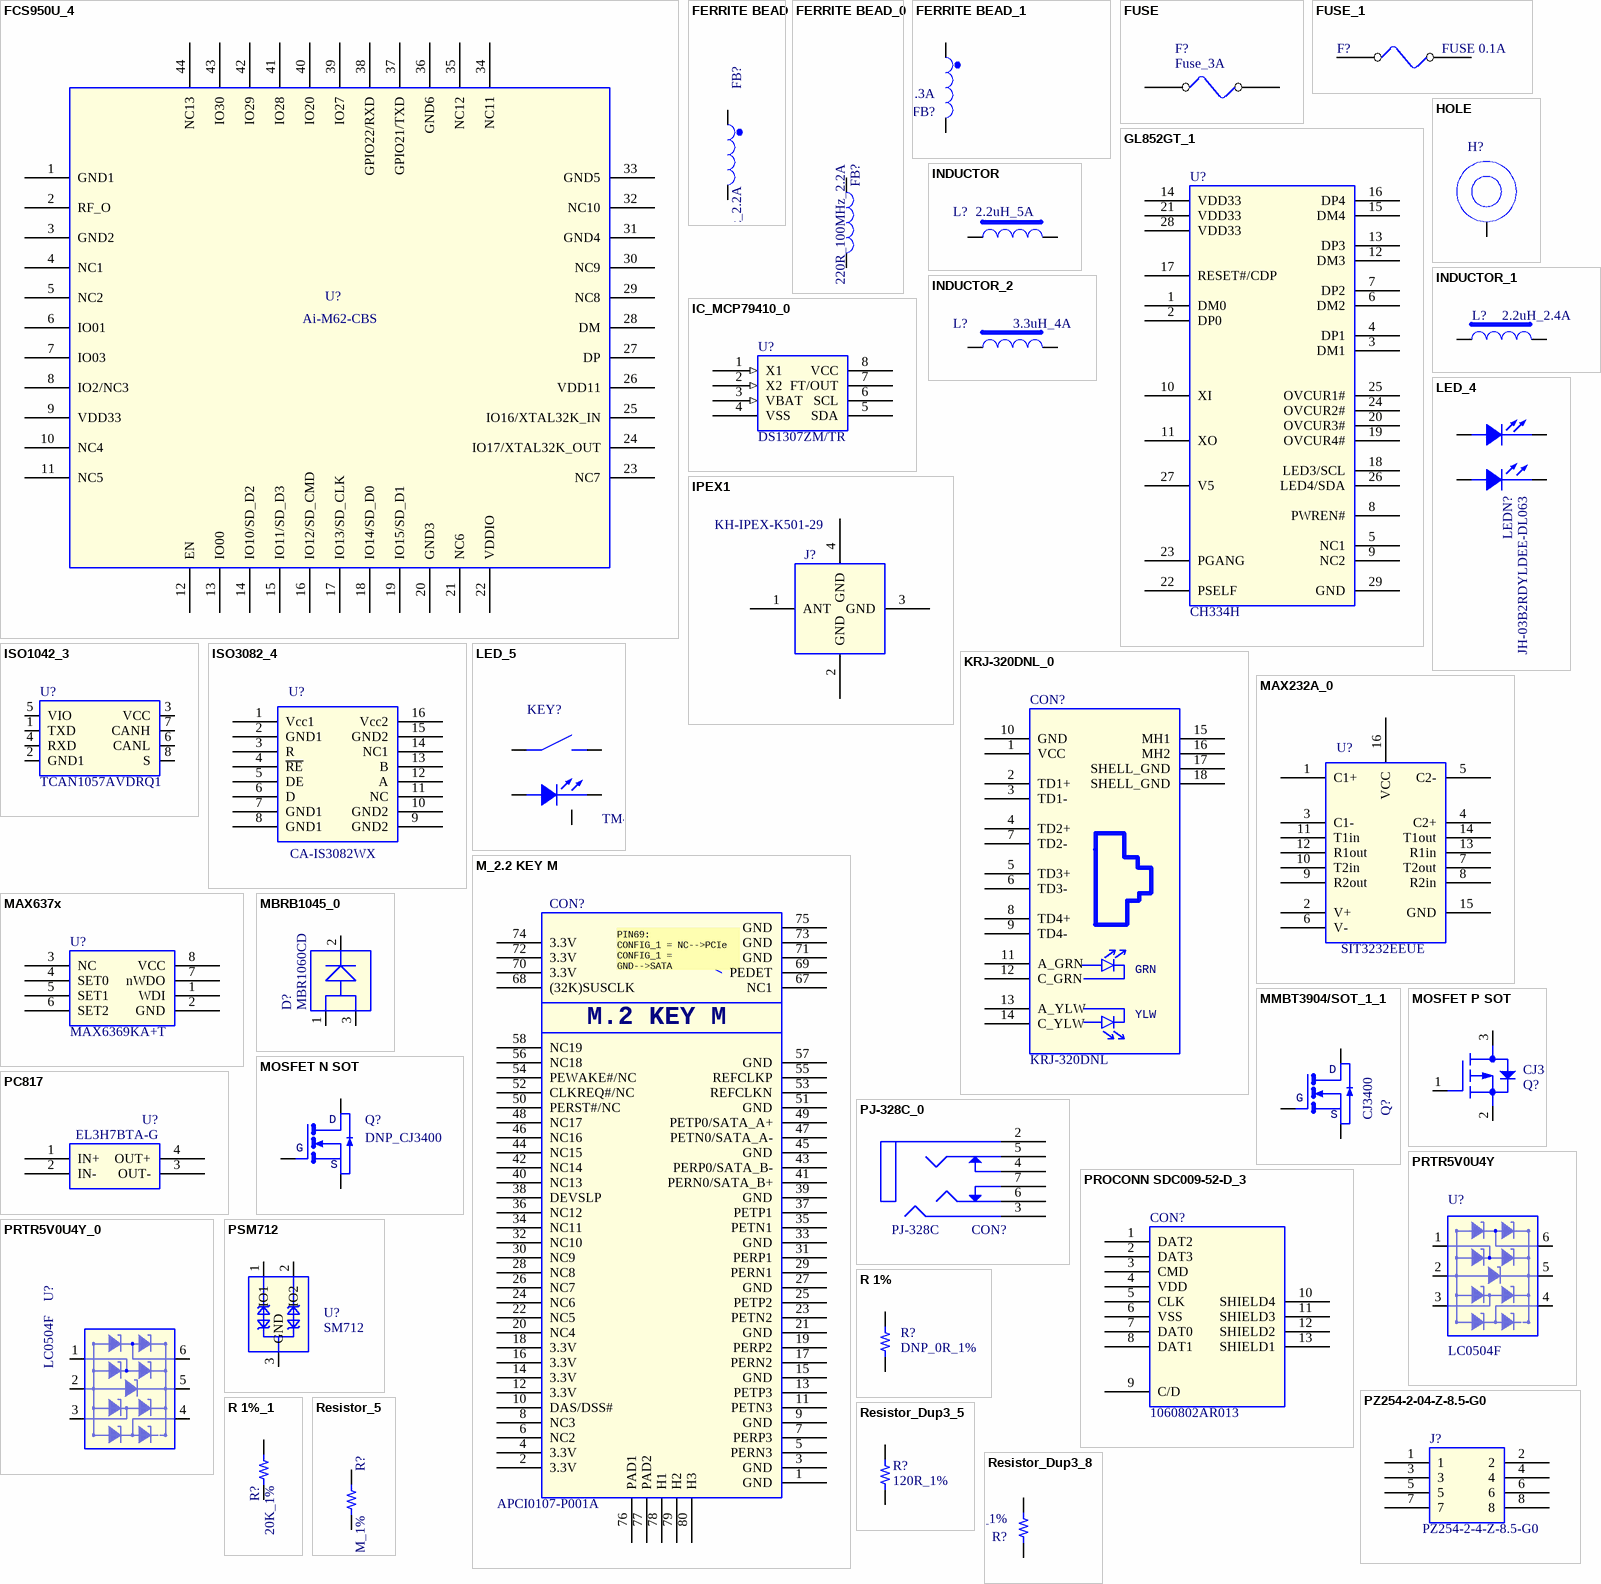
[diagram p3: symbols FCS950U_4 to Resistor_Dup3_8]

## FCS950U_4
designator U?, comment Ai-M62-CBS
工业级WIFI & BT 二合一模块选型（USB通信）; Part Description: MODULE WIFI5 BT5 LCC-44 H2.6mm RO; Manufacturer: QUECTEL; Geometry.Height: 2.6mm; PCB Footprint: FCS950U; ERP Number: 005.0003.0007.00179; Eco-Label: ROHS; As-Welded: /; Operation Temperature（℃）: -45~+85℃; Manufacturer Character: -; Manufacturer PartNumber: Ai-M62-CBS; Part Status: 测评
footprint FCS950U
pins: 1 GND1, 2 RF_O, 3 GND2, 4 NC1, 5 NC2, 6 IO01, 7 IO03, 8 IO2/NC3, 9 VDD33, 10 NC4, 11 NC5, 12 EN, 13 IO00, 14 IO10/SD_D2, 15 IO11/SD_D3, 16 IO12/SD_CMD, 17 IO13/SD_CLK, 18 IO14/SD_D0, 19 IO15/SD_D1, 20 GND3, 21 NC6, 22 VDDIO, 23 NC7, 24 IO17/XTAL32K_OUT, 25 IO16/XTAL32K_IN, 26 VDD11, 27 DP, 28 DM, 29 NC8, 30 NC9, 31 GND4, 32 NC10, 33 GND5, 34 NC11, 35 NC12, 36 GND6, 37 GPIO21/TXD, 38 GPIO22/RXD, 39 IO27, 40 IO20, 41 IO28, 42 IO29, 43 IO30, 44 NC13

## FERRITE BEAD
designator FB?, comment 220R_100MHz_2.2A
磁珠,50mΩ,2.2A,220R@100MHz; Manufacturer PartNumber: UPZ1608U221-2R2TF; Manufacturer: 深圳顺络电子股份有限公司（Sunlord）; Manufacturer Character: 中国大陆; Eco-Label: ROHS; ERP Number: 005.0001.0007.00015; As-Welded: /; Operation Temperature（℃）: -55~+125(Ta); room: USB HUB; PCB Footprint: L0603; Temperature: -55~+125(Ta); Part Status: 限选
footprint L0603
pins: 1, 2

## FERRITE BEAD_0
designator FB?, comment 220R_100MHz_2.2A
磁珠,50mΩ,2.2A,220R@100MHz; Manufacturer Character: 中国大陆; Manufacturer: 深圳顺络电子股份有限公司（Sunlord）; Manufacturer PartNumber: UPZ1608U221-2R2TF; PCB Footprint: L0603; Eco-Label: ROHS; Operation Temperature（℃）: -55~+125(Ta); room: usbuart; ERP Number: 005.0001.0007.00015; As-Welded: /; Part Status: 限选; Temperature: -55~125℃
footprint L0603
pins: 1, 2

## FERRITE BEAD_1
designator FB?, comment DNP_220R_100MHz_2.3A
磁珠,50mΩ,2.3A,220R@100MHz; Manufacturer PartNumber: UPZ1608U221-2R3TF; Manufacturer: 深圳顺络电子股份有限公司（Sunlord）; Manufacturer Character: 中国大陆; Operation Temperature（℃）: -55~+125(Ta); As-Welded: DNP; room: USB HUB; ERP Number: 005.0001.0007.00023; Eco-Label: ROHS; PCB Footprint: L0603; Temperature: -55~125℃; Part Status: 测评
footprint L0603
pins: 1, 2

## FUSE
designator F?, comment Fuse_3A
保险丝，Vmax=72V,Imax=50A,Ihold=3A; Manufacturer Character: 中国大陆; Manufacturer: 东莞市竞沃电子科技有限公司（TLC）; Manufacturer PartNumber: F12T3; Eco-Label: ROHS; ERP Number: 005.0001.0011.00036; Operation Temperature（℃）: -55~+125(Ta); As-Welded: /; PCB Footprint: F1206; Part Status: 试用; Temperature: -55~125℃
footprint F1206
pins: 1, 2

## FUSE_1
designator F?, comment FUSE 0.1A
自恢复保险丝,Vmax=24V,Imax=100A,Ihold=0.1A; Manufacturer PartNumber: TLC-PSMD010/24; Manufacturer: 东莞市竞沃电子科技有限公司（TLC）; Manufacturer Character: 中国大陆; PCB Footprint: F0805; Operation Temperature（℃）: -40~+85(Ta); As-Welded: /; ERP Number: 005.0001.0011.00038; Eco-Label: ROHS; Part Status: 测评; Temperature: -55~125℃
footprint F0805
pins: 1, 2

## GL852GT_1
designator U?, comment CH334H
USB HUB控制器; Manufacturer: 南京沁恒微电子股份有限公司（WCH）; Manufacturer Character: 中国大陆; PCB Footprint: QFN28_5x5; Operation Temperature（℃）: -40~+85(Ta); room: USB HUB; As-Welded: /; ERP Number: 005.0001.0004.00915; Eco-Label: ROHS; Temperature: -40~85℃; Manufacturer PartNumber: CH334H; Part Status: 优选
footprint QFN28_5x5
pins: 1 DM0, 2 DP0, 3 DM1, 4 DP1, 5 NC1, 6 DM2, 7 DP2, 8 PWREN#, 9 NC2, 10 XI, 11 XO, 12 DM3, 13 DP3, 14 VDD33 (power), 15 DM4, 16 DP4, 17 RESET#/CDP, 18 LED3/SCL, 19 OVCUR4#, 20 OVCUR3#, 21 VDD33 (power), 22 PSELF, 23 PGANG, 24 OVCUR2#, 25 OVCUR1#, 26 LED4/SDA, 27 V5, 28 VDD33 (power), 29 GND (power)

## HOLE
designator H?  (value not drawn)
Manufacturer Character: 中国大陆; PCB Footprint: MHOLE_C200D125; Operation Temperature（℃）: /; As-Welded: DNP
footprint MHOLE_C200D125
pins: 1

## IC_MCP79410_0
designator U?, comment DS1307ZM/TR
实时时钟,VCC=4.5~5.5V,I2C; Manufacturer Character: 中国大陆; Manufacturer: 广东华冠半导体有限公司(HGSEMI); PCB Footprint: SOIC8_D8; Eco-Label: ROHS; ERP Number: 005.0001.0004.00734; As-Welded: /; Operation Temperature（℃）: -40~+85(Ta); Part Status: 优选; Temperature: -40~85℃; Manufacturer PartNumber: DS1307ZM/TR
footprint SOIC8_D8
pins: 1 X1 (in), 2 X2 (in), 3 VBAT (in), 4 VSS (power), 5 SDA, 6 SCL, 7 FT/OUT, 8 VCC (power)

## INDUCTOR
designator L?, comment 2.2uH_5A
贴片功率电感,2.2uH,0.048Ω,Isat=7.6A,Irms=5A; Manufacturer PartNumber: WPN4020H2R2MT; Manufacturer: 深圳顺络电子股份有限公司（Sunlord）; Manufacturer Character: 中国大陆; Parameter: L2520，奇力新一体成型电感，最大额定电流3A，内阻65毫欧，20%; PCB Footprint: SMD-L4040M-2P; Operation Temperature（℃）: -40~+125(Ta); As-Welded: /; ERP Number: 005.0001.0006.00163; Eco-Label: ROHS; Part Status: 试用; Temperature: -40~125℃
footprint SMD-L4040M-2P
pins: 1, 2

## INDUCTOR_1
designator L?, comment 2.2uH_2.4A
贴片功率电感,2.2uH,0.096Ω,Isat=2.9A,Irms=2.4A; Manufacturer: 深圳顺络电子股份有限公司(Sunlord); Manufacturer PartNumber: WPN252010U2R2MT; Manufacturer Character: 中国大陆; Parameter: L2520，奇力新一体成型电感，最大额定电流3A，内阻65毫欧，20%; PCB Footprint: SMD-L2520M-2P; Eco-Label: ROHS; Operation Temperature（℃）: -40~+125(Ta); As-Welded: /; ERP Number: 005.0001.0006.00132; Temperature: -40~125; Part Status: 试用
footprint SMD-L2520M-2P
pins: 1, 2

## INDUCTOR_2
designator L?, comment 3.3uH_4A
贴片功率电感,3.3uH,0.058Ω,Isat=5A,Irms=4A; Manufacturer Character: 中国大陆; Manufacturer PartNumber: CSAB0518-3R3M; Manufacturer: 深圳市科达嘉电子有限公司（CODACA）; Parameter: L2520，奇力新一体成型电感，最大额定电流3A，内阻65毫欧，20%; PCB Footprint: SMD-L5452M-2P; Eco-Label: ROHS; ERP Number: 005.0001.0006.00124; Operation Temperature（℃）: -40~+125(Ta); As-Welded: /; ERP PCB Footprint: SMD-L5452M-2P; Temperature: -40~125℃; Part Status: 试用
footprint SMD-L5452M-2P
pins: 1, 2